# Altium schematic symbol library BKIT4U_LIB.SchLib: 368 symbols (part 1 of 3)
Pins are listed as number, name and electrical type; pins without a type are passive.

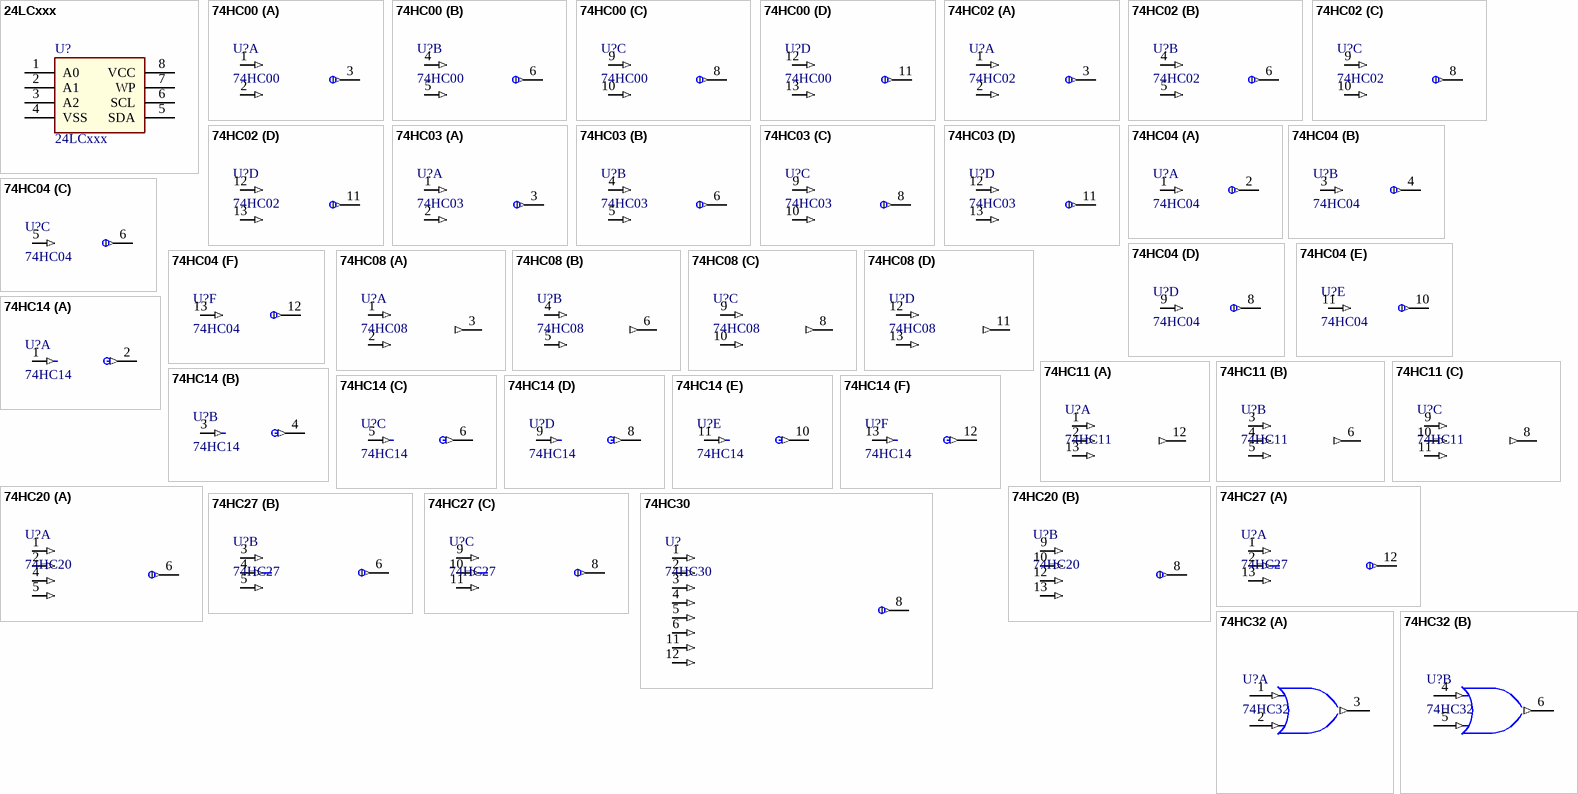
[diagram p0: symbols 24LCxxx to 74HC32]

## 24LCxxx
designator U?
2-Wire Serial EEPROM
footprint SOIC-8 (SOIC, 8-Leads, Body 5.0x4.0mm (max), Pitch 1.27mm, IPC Medium Density)
footprint DIP 8 (DIP IC (2.54mm), 8 pins)
pins: 1 A0, 2 A1, 3 A2, 4 VSS, 5 SDA, 6 SCL, 7 WP, 8 VCC

## 74HC00
designator U?
Quad 2-Input Nand Gate
footprint SOIC-14 (SOIC, 14-Leads, Body 8.6x3.9mm (max), Pitch 1.27mm, IPC Medium Density)
footprint DIP 14
part A pins: 1 1A (in), 2 1B (in), 3 1Y (out), 7 GND hidden to GND, 14 + (power) hidden to VCC
part B pins: 4 2A (in), 5 2B (in), 6 2Y (out)
part C pins: 8 3Y (out), 9 3A (in), 10 3B (in)
part D pins: 11 4Y (out), 12 4A (in), 13 4B (in)

## 74HC02
designator U?
Quad 2-Input Nor Gate
footprint SOIC-14 (SOIC, 14-Leads, Body 8.6x3.9mm (max), Pitch 1.27mm, IPC Medium Density)
footprint DIP 14
part A pins: 1 1A (in), 2 1B (in), 3 1Y (out), 7 GND hidden to GND, 14 + (power) hidden to VCC
part B pins: 4 2A (in), 5 2B (in), 6 2Y (out)
part C pins: 8 3Y (out), 9 3A (in), 10 3B (in)
part D pins: 11 4Y (out), 12 4A (in), 13 4B (in)

## 74HC03
designator U?
Quad 2-input NAND gate; open-drain output
footprint SOIC-14 (SOIC, 14-Leads, Body 8.6x3.9mm (max), Pitch 1.27mm, IPC Medium Density)
footprint DIP 14
part A pins: 1 1A (in), 2 1B (in), 3 1Y (out), 7 GND hidden to GND, 14 + (power) hidden to VCC
part B pins: 4 2A (in), 5 2B (in), 6 2Y (out)
part C pins: 8 3Y (out), 9 3A (in), 10 3B (in)
part D pins: 11 4Y (out), 12 4A (in), 13 4B (in)

## 74HC04
designator U?
Hex Inverters
footprint SOIC-14 (SOIC, 14-Leads, Body 8.6x3.9mm (max), Pitch 1.27mm, IPC Medium Density)
footprint DIP 14
part A pins: 1 1A (in), 2 1Y (out), 7 GND hidden to GND, 14 + (power) hidden to VCC
part B pins: 3 2A (in), 4 2Y (out)
part C pins: 5 3A (in), 6 3Y (out)
part D pins: 8 4Y (out), 9 4A (in)
part E pins: 10 5Y (out), 11 5A (in)
part F pins: 12 6Y (out), 13 6A (in)

## 74HC08
designator U?
Quad 2-Input Positive And Gate
footprint SOIC-14 (SOIC, 14-Leads, Body 8.6x3.9mm (max), Pitch 1.27mm, IPC Medium Density)
footprint DIP 14
part A pins: 1 1A (in), 2 1B (in), 3 1Y (out), 7 GND hidden to GND, 14 + (power) hidden to VCC
part B pins: 4 2A (in), 5 2B (in), 6 2Y (out)
part C pins: 8 3Y (out), 9 3A (in), 10 3B (in)
part D pins: 11 4Y (out), 12 4A (in), 13 4B (in)

## 74HC11
designator U?
Triple 3-Input And Gate
footprint SOIC-14 (SOIC, 14-Leads, Body 8.6x3.9mm (max), Pitch 1.27mm, IPC Medium Density)
footprint DIP 14
part A pins: 1 1A (in), 2 1B (in), 7 GND hidden to GND, 12 1Y (out), 13 1C (in), 14 + (power) hidden to VCC
part B pins: 3 2A (in), 4 2B (in), 5 2C (in), 6 2Y (out)
part C pins: 8 3Y (out), 9 3A (in), 10 3B (in), 11 3C (in)

## 74HC14
designator U?
Hex Schmitt Trigger
footprint SOIC-14 (SOIC, 14-Leads, Body 8.6x3.9mm (max), Pitch 1.27mm, IPC Medium Density)
footprint DIP 14
footprint TSSOP 14
part A pins: 1 1A (in), 2 1Y (out), 7 GND hidden to GND, 14 + (power) hidden to VCC
part B pins: 3 2A (in), 4 2Y (out)
part C pins: 5 3A (in), 6 3Y (out)
part D pins: 8 4Y (out), 9 4A (in)
part E pins: 10 5Y (out), 11 5A (in)
part F pins: 12 6Y (out), 13 6A (in)

## 74HC20
designator U?
Dual 4-Input Nand Gate
footprint SOIC-14 (SOIC, 14-Leads, Body 8.6x3.9mm (max), Pitch 1.27mm, IPC Medium Density)
footprint DIP 14
part A pins: 1 1A (in), 2 1B (in), 4 1C (in), 5 1D (in), 6 1Y (out), 7 GND hidden to GND, 14 + (power) hidden to VCC
part B pins: 8 2Y (out), 9 2A (in), 10 2B (in), 12 2C (in), 13 2D (in)

## 74HC27
designator U?
Triple 3-Input Nor Gate
footprint SOIC-14 (SOIC, 14-Leads, Body 8.6x3.9mm (max), Pitch 1.27mm, IPC Medium Density)
footprint DIP 14
part A pins: 1 1A (in), 2 1B (in), 7 GND hidden to GND, 12 1Y (out), 13 1C (in), 14 + (power) hidden to VCC
part B pins: 3 2A (in), 4 2B (in), 5 2C (in), 6 2Y (out)
part C pins: 8 3Y (out), 9 3A (in), 10 3B (in), 11 3C (in)

## 74HC30
designator U?
8-Input Positive Nand Gate
footprint SOIC-14 (SOIC, 14-Leads, Body 8.6x3.9mm (max), Pitch 1.27mm, IPC Medium Density)
footprint DIP 14
pins: 1 A (in), 2 B (in), 3 C (in), 4 D (in), 5 E (in), 6 F (in), 7 GND hidden to GND, 8 Y (out), 11 G (in), 12 H (in), 14 + (power) hidden to VCC

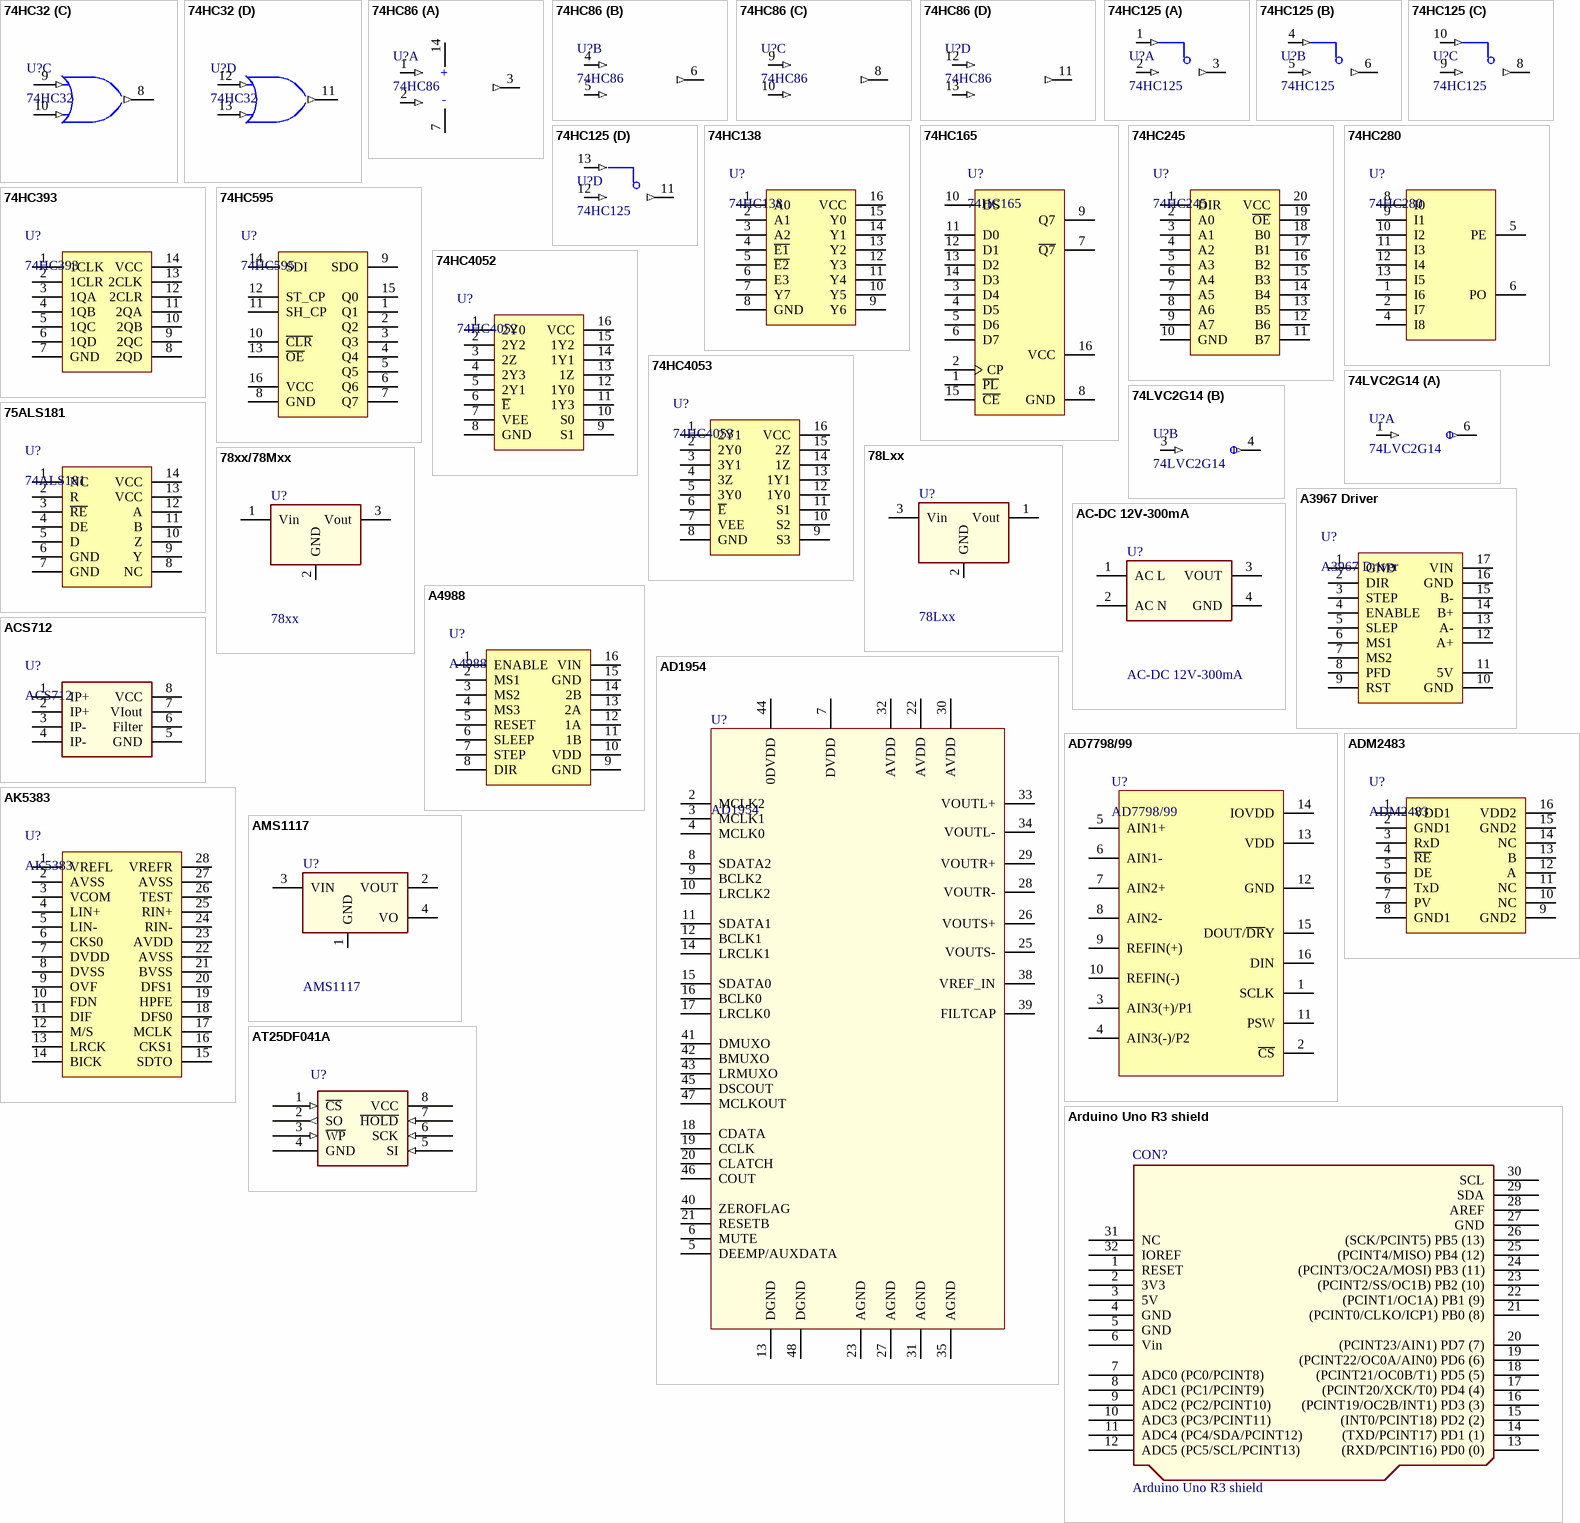
[diagram p1: symbols 74HC32 to AT25DF041A]

## 74HC32
designator U?
footprint SOIC-14 (SOIC, 14-Leads, Body 8.6x3.9mm (max), Pitch 1.27mm, IPC Medium Density)
footprint DIP 14
part A pins: 1 A (in), 2 B (in), 3 Y (out)
part B pins: 4 A (in), 5 B (in), 6 Y (out)
part C pins: 8 Y (out), 9 A (in), 10 B (in)
part D pins: 11 Y (out), 12 A (in), 13 B (in)

## 74HC86
designator U?
Quad 2-input EXCLUSIVE-OR gate
footprint SOIC-14 (SOIC, 14-Leads, Body 8.6x3.9mm (max), Pitch 1.27mm, IPC Medium Density)
footprint DIP 14
part A pins: 1 1A (in), 2 1B (in), 3 1Y (out), 7 GND, 14 VCC (power)
part B pins: 4 2A (in), 5 2B (in), 6 2Y (out)
part C pins: 8 3Y (out), 9 3A (in), 10 3B (in)
part D pins: 11 4Y (out), 12 4A (in), 13 4B (in)
part A text: +; -

## 74HC125
designator U?
Octal bus tranceiver, 3-state
footprint SOIC-14 (SOIC, 14-Leads, Body 8.6x3.9mm (max), Pitch 1.27mm, IPC Medium Density)
footprint DIP 14
part A pins: 1 1~{OE} (in), 2 1A (in), 3 1Y (out), 7 GND hidden, 14 + (power) hidden
part B pins: 4 2~{OE} (in), 5 2A (in), 6 2Y (out)
part C pins: 8 3Y (out), 9 3A (in), 10 3~{OE} (in)
part D pins: 11 4Y (out), 12 4A (in), 13 4~{OE} (in)

## 74HC138
designator U?
Hex inverter
footprint SOIC-16 (SOIC, 16-Leads, Body 10.0x4.0mm (max), Pitch 1.27mm, IPC Medium Density)
footprint DIP 16
pins: 1 A0, 2 A1, 3 A2, 4 ~{E1}, 5 ~{E2}, 6 E3, 7 Y7, 8 GND, 9 Y6, 10 Y5, 11 Y4, 12 Y3, 13 Y2, 14 Y1, 15 Y0, 16 VCC

## 74HC165
designator U?
8-bit serial-in, serial or parallel-out  shift register with output latches;  3-state
footprint SOIC-16 (SOIC, 16-Leads, Body 10.0x4.0mm (max), Pitch 1.27mm, IPC Medium Density)
footprint DIP 16
pins: 1 ~{PL}, 2 CP, 3 D4, 4 D5, 5 D6, 6 D7, 7 ~{Q7}, 8 GND, 9 Q7, 10 DS, 11 D0, 12 D1, 13 D2, 14 D3, 15 ~{CE}, 16 VCC

## 74HC245
designator U?
Octal bus tranceiver, 3-state
footprint SOIC-20 (SOIC, 20-Leads, Body 12.8x7.5mm (max), Pitch 1.27mm, IPC Medium Density)
footprint DIP 20
pins: 1 DIR, 2 A0, 3 A1, 4 A2, 5 A3, 6 A4, 7 A5, 8 A6, 9 A7, 10 GND, 11 B7, 12 B6, 13 B5, 14 B4, 15 B3, 16 B2, 17 B1, 18 B0, 19 ~{OE}, 20 VCC

## 74HC280
designator U?
9-bit odd/even parity generator/checker
footprint SOIC-14 (SOIC, 14-Leads, Body 8.6x3.9mm (max), Pitch 1.27mm, IPC Medium Density)
footprint DIP 14
pins: 1 I6, 2 I7, 4 I8, 5 PE, 6 PO, 7 GND hidden to GND, 8 I0, 9 I1, 10 I2, 11 I3, 12 I4, 13 I5, 14 VCC hidden to VCC

## 74HC393
designator U?
Dual 4-bit Binary Counters
footprint SOIC-14 (SOIC, 14-Leads, Body 8.6x3.9mm (max), Pitch 1.27mm, IPC Medium Density)
footprint DIP 14
pins: 1 1CLK, 2 1CLR, 3 1QA, 4 1QB, 5 1QC, 6 1QD, 7 GND, 8 2QD, 9 2QC, 10 2QB, 11 2QA, 12 2CLR, 13 2CLK, 14 VCC

## 74HC595
designator U?
8-bit serial-in, serial or parallel-out  shift register with output latches;  3-state
footprint SOIC-16 (SOIC, 16-Leads, Body 10.0x4.0mm (max), Pitch 1.27mm, IPC Medium Density)
footprint DIP 16
pins: 1 Q1, 2 Q2, 3 Q3, 4 Q4, 5 Q5, 6 Q6, 7 Q7, 8 GND, 9 SDO, 10 ~{CLR}, 11 SH_CP, 12 ST_CP, 13 ~{OE}, 14 SDI, 15 Q0, 16 VCC

## 74HC4052
designator U?
Dual 4-channel analog multiplexer/demultiplexer
footprint SOIC-16 (SOIC, 16-Leads, Body 10.0x4.0mm (max), Pitch 1.27mm, IPC Medium Density)
footprint DIP 16
pins: 1 2Y0, 2 2Y2, 3 2Z, 4 2Y3, 5 2Y1, 6 ~{E}, 7 VEE, 8 GND, 9 S1, 10 S0, 11 1Y3, 12 1Y0, 13 1Z, 14 1Y1, 15 1Y2, 16 VCC

## 74HC4053
designator U?
Triple 2-channel analog multiplexer/demultiplexer
footprint SOIC-16 (SOIC, 16-Leads, Body 10.0x4.0mm (max), Pitch 1.27mm, IPC Medium Density)
footprint DIP 16
pins: 1 2Y1, 2 2Y0, 3 3Y1, 4 3Z, 5 3Y0, 6 ~{E}, 7 VEE, 8 GND, 9 S3, 10 S2, 11 S1, 12 1Y0, 13 1Y1, 14 1Z, 15 2Z, 16 VCC

## 74LVC2G14
designator U?
Hex Schmitt Trigger
footprint SOT-23-6 (SOT23, 6-Leads, Body 3.0x3.0mm (max), Pitch 0.95mm, IPC Medium Density)
part A pins: 1 1A (in), 2 GND hidden to GND, 5 + (power) hidden to VCC, 6 1Y (out)
part B pins: 3 2A (in), 4 2Y (out)

## 75ALS181
designator U?, comment 74ALS181
DIFFERENTIAL DRIVER AND RECEIVER PAIR
footprint PDSO-14 (SOIC, 14-Leads, Body 9.9x3.9mm, Pitch 1.27mm, IPC Medium Density)
footprint DIP 14
pins: 1 NC, 2 R, 3 ~{RE}, 4 DE, 5 D, 6 GND, 7 GND, 8 NC, 9 Y, 10 Z, 11 B, 12 A, 13 VCC, 14 VCC

## 78Lxx
designator U?
LDO Fixed Voltage regulator
footprint SOT-89 (SOT89, 3-Leads, Body 4.5x2.4mm (max), Pitch 1.50mm, Lead Span 4.1mm, IPC Medium Density)
footprint TO-92
pins: 1 Vout, 2 GND, 3 Vin (power)

## 78xx/78Mxx
designator U?, comment 78xx
LDO Fixed Voltage regulator
footprint TO-220
footprint TO-252 (DPAK) (D-PAK, 3-Pads, Body 6.2x6.7mm (max), IPC Medium Density)
footprint TO-220/HeatSink
footprint TO-263 (D2PAK)
pins: 1 Vin (power), 2 GND, 3 Vout

## A3967 Driver
designator U?
StepMotor Driver
footprint A3967 Driver Pins (Driver Step Motor Pinout)
pins: 1 GND, 2 DIR, 3 STEP, 4 ENABLE, 5 SLEP, 6 MS1, 7 MS2, 8 PFD, 9 RST, 10 GND, 11 5V, 12 A+, 13 A-, 14 B+, 15 B-, 16 GND, 17 VIN

## A4988
designator U?
StepMotor Driver
footprint A4988 Driver Pins (Driver Step Motor Pinout)
pins: 1 ENABLE, 2 MS1, 3 MS2, 4 MS3, 5 RESET, 6 SLEEP, 7 STEP, 8 DIR, 9 GND, 10 VDD, 11 1B, 12 1A, 13 2A, 14 2B, 15 GND, 16 VIN

## AC-DC 12V-300mA
designator U?
footprint AC-DC Module (Driver Step Motor Pinout)
pins: 1 AC L (power), 2 AC N (power), 3 VOUT, 4 GND

## ACS712
designator U?
Fully Integrated, Hall Effect-Based Linear Current Sensor IC   with 2.1 kVRMS Isolation and a Low-Resistance Current Conductor
footprint SOIC-8 (SOIC, 8-Leads, Body 5.0x4.0mm (max), Pitch 1.27mm, IPC Medium Density)
pins: 1 IP+, 2 IP+, 3 IP-, 4 IP-, 5 GND, 6 Filter, 7 VIout, 8 VCC

## AD1954
designator U?
SigmaDSP 3-Channel, 26-Bit Signal Processing DAC
footprint QFP 50P 48 (TSQFP, 48-Leads, Body 9.2x9.2mm (max), Pitch 0.50mm, IPC Medium Density)
pins: 2 MCLK2, 3 MCLK1, 4 MCLK0, 5 DEEMP/AUXDATA, 6 MUTE, 7 DVDD, 8 SDATA2, 9 BCLK2, 10 LRCLK2, 11 SDATA1, 12 BCLK1, 13 DGND, 14 LRCLK1, 15 SDATA0, 16 BCLK0, 17 LRCLK0, 18 CDATA, 19 CCLK, 20 CLATCH, 21 RESETB, 22 AVDD, 23 AGND, 25 VOUTS-, 26 VOUTS+, 27 AGND, 28 VOUTR-, 29 VOUTR+, 30 AVDD, 31 AGND, 32 AVDD, 33 VOUTL+, 34 VOUTL-, 35 AGND, 38 VREF_IN, 39 FILTCAP, 40 ZEROFLAG, 41 DMUXO, 42 BMUXO, 43 LRMUXO, 44 0DVDD, 45 DSCOUT, 46 COUT, 47 MCLKOUT, 48 DGND

## AD7798/99
designator U?
footprint TSSOP 16
pins: 1 SCLK, 2 ~{CS}, 3 AIN3(+)/P1, 4 AIN3(-)/P2, 5 AIN1+, 6 AIN1-, 7 AIN2+, 8 AIN2-, 9 REFIN(+), 10 REFIN(-), 11 PSW, 12 GND, 13 VDD, 14 IOVDD, 15 DOUT/~{DR}Y, 16 DIN

## ADM2483
designator U?
Hex inverter
footprint SOIC-16-WIDE (SOIC, 20-Leads, Body 12.8x7.5mm (max), Pitch 1.27mm, IPC Medium Density)
pins: 1 VDD1, 2 GND1, 3 RxD, 4 ~{RE}, 5 DE, 6 TxD, 7 PV, 8 GND1, 9 GND2, 10 NC, 11 NC, 12 A, 13 B, 14 NC, 15 GND2, 16 VDD2

## AK5383
designator U?
A 24bit, 192kHz sampling 2ch A/D converter for high-end audio system
footprint SOIC-28 (SOIC, 28-Leads, Body 17.9x7.5mm (max), Pitch 1.27mm, IPC Medium Density)
pins: 1 VREFL, 2 AVSS, 3 VCOM, 4 LIN+, 5 LIN-, 6 CKS0, 7 DVDD, 8 DVSS, 9 OVF, 10 FDN, 11 DIF, 12 M/S, 13 LRCK, 14 BICK, 15 SDTO, 16 CKS1, 17 MCLK, 18 DFS0, 19 HPFE, 20 DFS1, 21 BVSS, 22 AVSS, 23 AVDD, 24 RIN-, 25 RIN+, 26 TEST, 27 AVSS, 28 VREFR

## AMS1117
designator U?
1A LDO Voltage Regulator, ADJ or fixed 1.5/1.8/2.5/2.85/3.3/5V
footprint SOT-223 (SOT223, 4-Leads, Body 6.7x7.3mm (max), Pitch 2.30mm, IPC Medium Density)
pins: 1 GND, 2 VOUT, 3 VIN (power), 4 VO

## Arduino Uno R3 shield
designator CON?
Arduino Uno R3 shield pins connection
footprint Arduino Uno R3 Shield 2xPins
pins: 1 RESET, 2 3V3, 3 5V, 4 GND (power), 5 GND (power), 6 Vin, 7 ADC0 (PC0/PCINT8), 8 ADC1 (PC1/PCINT9), 9 ADC2 (PC2/PCINT10), 10 ADC3 (PC3/PCINT11), 11 ADC4 (PC4/SDA/PCINT12), 12 ADC5 (PC5/SCL/PCINT13), 13 (RXD/PCINT16) PD0 (0), 14 (TXD/PCINT17) PD1 (1), 15 (INT0/PCINT18) PD2 (2), 16 (PCINT19/OC2B/INT1) PD3 (3), 17 (PCINT20/XCK/T0) PD4 (4), 18 (PCINT21/OC0B/T1) PD5 (5), 19 (PCINT22/OC0A/AIN0) PD6 (6), 20 (PCINT23/AIN1) PD7 (7), 21 (PCINT0/CLKO/ICP1) PB0 (8), 22 (PCINT1/OC1A) PB1 (9), 23 (PCINT2/SS/OC1B) PB2 (10), 24 (PCINT3/OC2A/MOSI) PB3 (11), 25 (PCINT4/MISO) PB4 (12), 26 (SCK/PCINT5) PB5 (13), 27 GND (power), 28 AREF, 29 SDA, 30 SCL, 31 NC, 32 IOREF

## AT25DF041A
designator U?
4Mb SPI Serial Flash Memory
footprint SOIC-8 (SOIC, 8-Leads, Body 5.0x4.0mm (max), Pitch 1.27mm, IPC Medium Density)
pins: 1 ~{CS} (in), 2 SO (out), 3 ~{WP} (in), 4 GND (power), 5 SI (in), 6 SCK (in), 7 ~{HOLD} (in), 8 VCC (power)

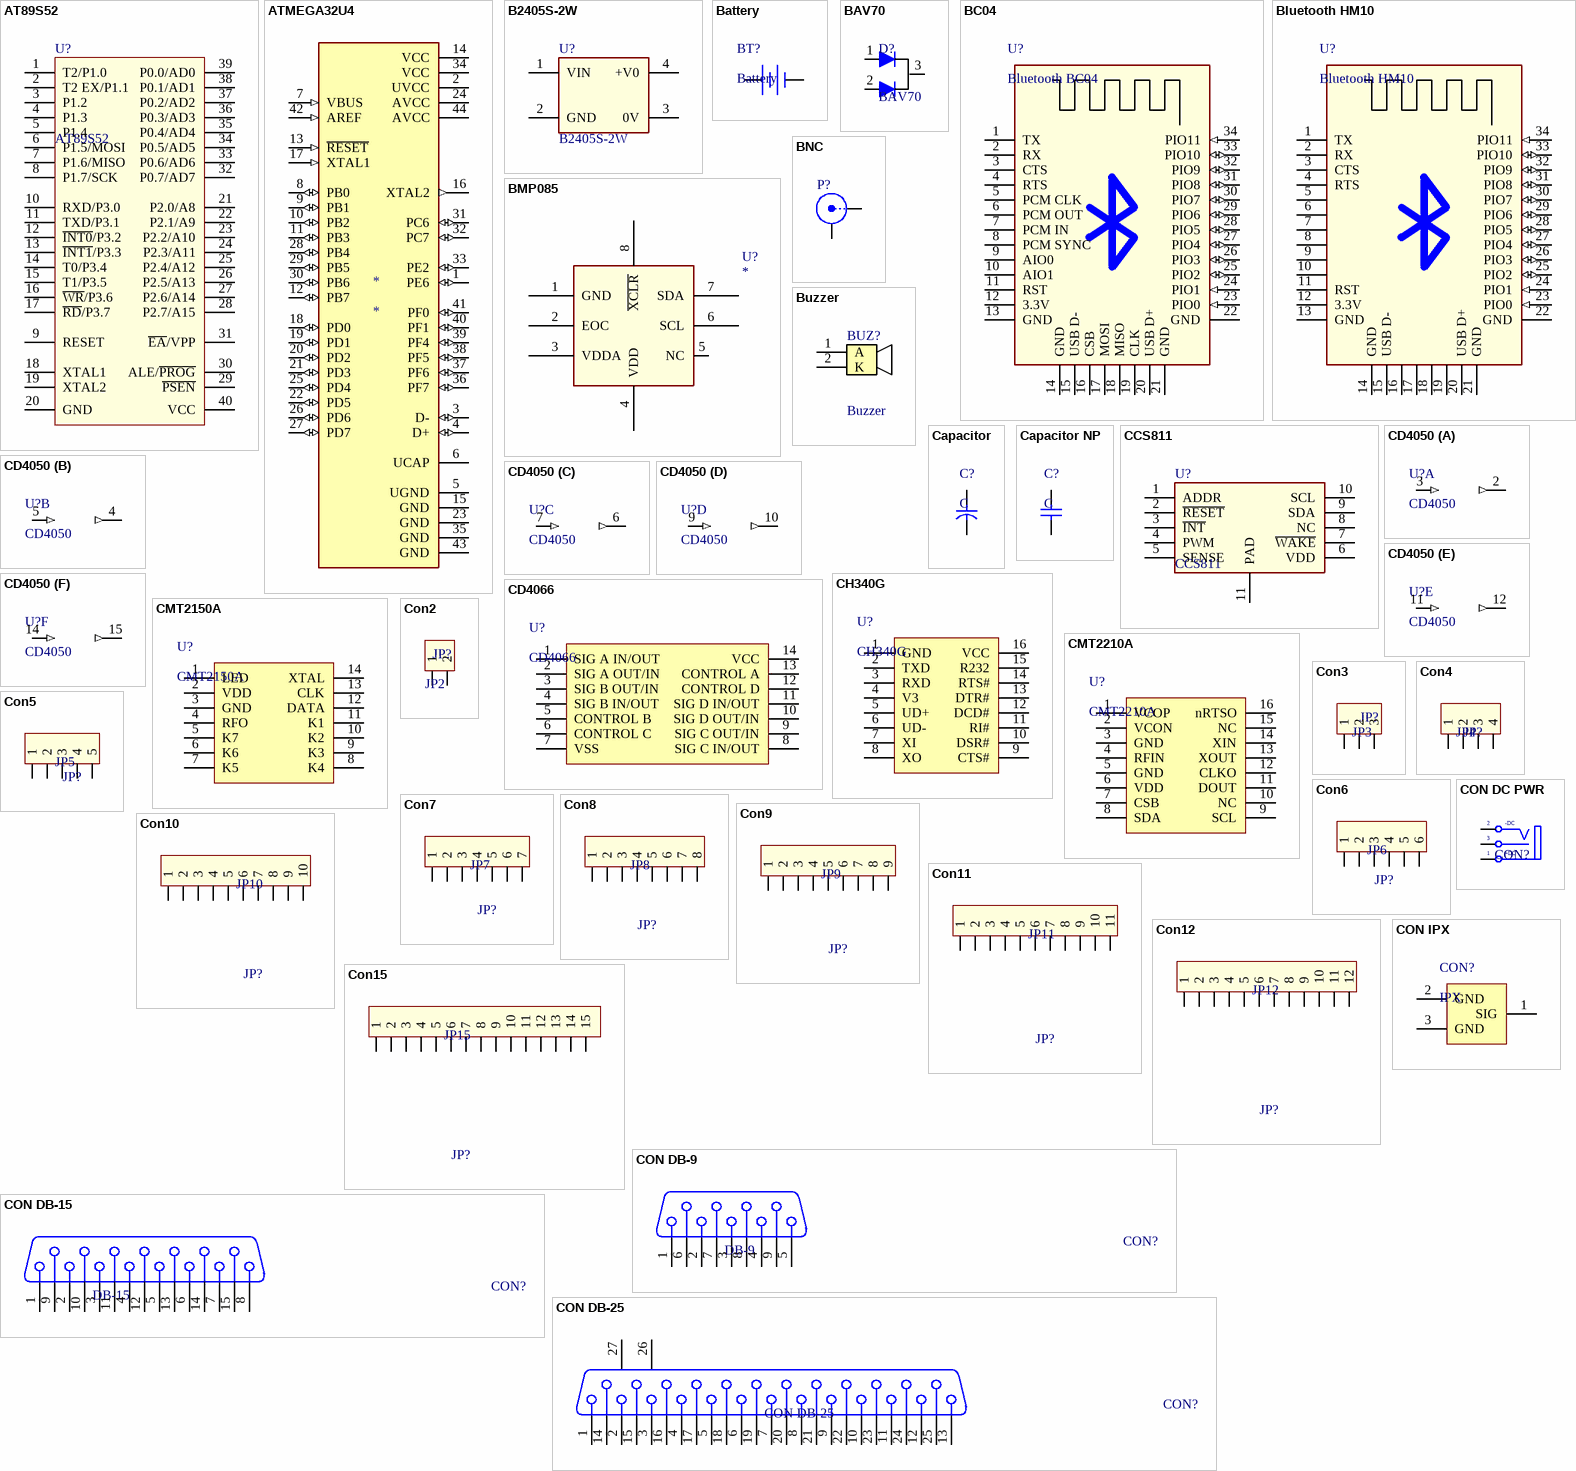
[diagram p2: symbols AT89S52 to CON IPX]

## AT89S52
designator U?
8051 Microcontroller
footprint DIP 40
pins: 1 T2/P1.0, 2 T2 EX/P1.1, 3 P1.2, 4 P1.3, 5 P1.4, 6 P1.5/MOSI, 7 P1.6/MISO, 8 P1.7/SCK, 9 RESET, 10 RXD/P3.0, 11 TXD/P3.1, 12 ~{INT0}/P3.2, 13 ~{INT1}/P3.3, 14 T0/P3.4, 15 T1/P3.5, 16 ~{WR}/P3.6, 17 ~{RD}/P3.7, 18 XTAL1, 19 XTAL2, 20 GND, 21 P2.0/A8, 22 P2.1/A9, 23 P2.2/A10, 24 P2.3/A11, 25 P2.4/A12, 26 P2.5/A13, 27 P2.6/A14, 28 P2.7/A15, 29 ~{PSEN}, 30 ALE/~{PROG}, 31 ~{EA}/VPP, 32 P0.7/AD7, 33 P0.6/AD6, 34 P0.5/AD5, 35 P0.4/AD4, 36 P0.3/AD3, 37 P0.2/AD2, 38 P0.1/AD1, 39 P0.0/AD0, 40 VCC

## ATMEGA32U4
designator *
footprint QFP80P1200X1200X120-44N
pins: 1 PE6 (io), 2 UVCC (power), 3 D- (io), 4 D+ (io), 5 UGND (power), 6 UCAP, 7 VBUS (in), 8 PB0 (io), 9 PB1 (io), 10 PB2 (io), 11 PB3 (io), 12 PB7 (io), 13 ~{RESET} (in), 14 VCC (power), 15 GND (power), 16 XTAL2 (out), 17 XTAL1 (in), 18 PD0 (io), 19 PD1 (io), 20 PD2 (io), 21 PD3 (io), 22 PD5 (io), 23 GND (power), 24 AVCC (power), 25 PD4 (io), 26 PD6 (io), 27 PD7 (io), 28 PB4 (io), 29 PB5 (io), 30 PB6 (io), 31 PC6 (io), 32 PC7 (io), 33 PE2 (io), 34 VCC (power), 35 GND (power), 36 PF7 (io), 37 PF6 (io), 38 PF5 (io), 39 PF4 (io), 40 PF1 (io), 41 PF0 (io), 42 AREF (in), 43 GND (power), 44 AVCC (power)

## B2405S-2W
designator U?
Isolated Power
footprint B2405S-2W
pins: 1 VIN, 2 GND, 3 0V, 4 +V0

## Battery
designator BT?
footprint CON CR2032
footprint CON CR1220
footprint CON CR2032 V
footprint CON CR2032 VL
pins: 1 VCC, 2 GND

## BAV70
designator D?
High-speed switching diodes; Published: 8-Jun-2000; LatestRevisionDate: 17-Jul-2002; LatestRevisionNote: Re-released for DXP Platform.; PackageVersion: Sep-1996; PackageReference: SMC; Publisher: Altium Limited; Code_JEDEC: DO-214-AB
footprint SOT-23 (SOT23, 3-Leads, Body 3.0x2.5mm (max), Pitch 0.95mm, IPC Medium Density)
pins: 1, 2, 3

## BC04
designator U?, comment Bluetooth BC04
Bluetooth module uses CSR BlueCore4-External chipsets.
footprint BC04 (Bluetooth module uses CSR BlueCore4-External chipsets.)
pins: 1 TX, 2 RX, 3 CTS, 4 RTS, 5 PCM CLK, 6 PCM OUT, 7 PCM IN, 8 PCM SYNC, 9 AIO0, 10 AIO1, 11 RST, 12 3.3V, 13 GND, 14 GND, 15 USB D-, 16 CSB, 17 MOSI, 18 MISO, 19 CLK, 20 USB D+, 21 GND, 22 GND, 23 PIO0 (in), 24 PIO1 (in), 25 PIO2 (io), 26 PIO3 (io), 27 PIO4 (io), 28 PIO5 (io), 29 PIO6 (io), 30 PIO7 (io), 31 PIO8 (io), 32 PIO9 (io), 33 PIO10 (io), 34 PIO11 (in)

## Bluetooth HM10
designator U?
Bluetooth module uses CSR BlueCore4-External chipsets.
footprint BC04 (Bluetooth module uses CSR BlueCore4-External chipsets.)
pins: 1 TX, 2 RX, 3 CTS, 4 RTS, 5, 6, 7, 8, 9, 10, 11 RST, 12 3.3V, 13 GND, 14 GND, 15 USB D-, 16, 17, 18, 19, 20 USB D+, 21 GND, 22 GND, 23 PIO0 (in), 24 PIO1 (in), 25 PIO2 (io), 26 PIO3 (io), 27 PIO4 (io), 28 PIO5 (io), 29 PIO6 (io), 30 PIO7 (io), 31 PIO8 (io), 32 PIO9 (io), 33 PIO10 (io), 34 PIO11 (in)

## BMP085
designator U?
footprint LCC 8-LEAD
pins: 1 GND (power), 2 EOC, 3 VDDA (power), 4 VDD (power), 5 NC, 6 SCL, 7 SDA, 8 ~{XCLR}

## BNC
designator P?
BNC Elbow Connector; LatestRevisionDate: 17-Jul-2002; LatestRevisionNote: Re-released for DXP Platform.; Publisher: Altium Limited
footprint BNC_RA CON (Connector; BNC Elbow)
pins: 1 X, 2 Y

## Buzzer
designator BUZ?
footprint BUZZER
footprint Buzzer SMD
pins: 1 A, 2 K

## Capacitor
designator C?, comment C
Capacitor pol
footprint C SMD TAN 1206 (A) (Molded Capacitor, 2-Leads, Body 3.2x1.6mm, IPC Medium Density)
footprint C SMD TAN 2312 (C) (Molded Capacitor, 2-Leads, Body 6.0x3.2mm, IPC Medium Density)
footprint C SMD TAN 2917 (E) (Molded Capacitor, 2-Leads, Body 7.3x4.3mm, IPC Medium Density)
footprint CYL/D.250/LS.100/.031
footprint CYL/D.300/LS.150/.031
footprint CYL/D.350/LS.200/.034
footprint CYL/D.400/LS.200/.031
footprint C SMD ALU (D) (SMD Aluminum Electrolytic Capacitor, size D (6.3 x 5.4 mm))
footprint C SMD ALU (D8) (SMD Aluminum Electrolytic Capacitor, size D8 (6.3 x 7.7 mm))
footprint C SMD ALU (B) (SMD Aluminum Electrolytic Capacitor, size D (4.0 x 5.4 mm))
footprint C SMD ALU (F) (SMD Aluminum Electrolytic Capacitor, size F (8.0 x 10.2 mm))
footprint C Super Case A
footprint C Super Case B
pins: 1, 2

## Capacitor NP
designator C?, comment C
Capacitor non-pol
footprint C 0603 (1608) (Chip Capacitor, 2-Leads, Body 1.6x0.8mm, IPC Medium Density)
footprint C 0805 (2012) (Chip Capacitor, 2-Leads, Body 2.0x1.3mm, IPC Medium Density)
footprint C 104 (Capacitor)
footprint C Ceramic
footprint C 1210 (3225) (Chip Resistor, 2-Leads, Body 3.2x2.5mm, IPC Medium Density)
footprint C 1206 (3216) (Chip Resistor, 2-Leads, Body 3.1x1.6mm, IPC Medium Density)
pins: 1, 2

## CCS811
designator U?
Ultra-Low Power Digital Gas Sensor for / Monitoring Indoor Air Quality
footprint CCS811
pins: 1 ADDR, 2 ~{RESET}, 3 ~{INT}, 4 PWM, 5 SENSE, 6 VDD, 7 ~{WAKE}, 8 NC, 9 SDA, 10 SCL, 11 PAD

## CD4050
designator U?
Hex Schmitt Trigger
footprint SOIC-16 (SOIC, 16-Leads, Body 10.0x4.0mm (max), Pitch 1.27mm, IPC Medium Density)
part A pins: 2 G (out), 3 A (in), 8 GND hidden to GND, 16 + (power) hidden to VCC
part B pins: 4 H (out), 5 B (in)
part C pins: 6 I (out), 7 C (in)
part D pins: 9 D (in), 10 J (out)
part E pins: 11 E (in), 12 K (out)
part F pins: 14 F (in), 15 L (out)

## CD4066
designator U?
CMOS Quad Bilateral Switch
footprint SOIC-14 (SOIC, 14-Leads, Body 8.6x3.9mm (max), Pitch 1.27mm, IPC Medium Density)
footprint DIP 14
pins: 1 SIG A IN/OUT, 2 SIG A OUT/IN, 3 SIG B OUT/IN, 4 SIG B IN/OUT, 5 CONTROL B, 6 CONTROL C, 7 VSS, 8 SIG C IN/OUT, 9 SIG C OUT/IN, 10 SIG D OUT/IN, 11 SIG D IN/OUT, 12 CONTROL D, 13 CONTROL A, 14 VCC

## CH340G
designator U?
USB to UART Interface
footprint SOIC-16 (SOIC, 16-Leads, Body 10.0x4.0mm (max), Pitch 1.27mm, IPC Medium Density)
pins: 1 GND, 2 TXD, 3 RXD, 4 V3, 5 UD+, 6 UD-, 7 XI, 8 XO, 9 CTS#, 10 DSR#, 11 RI#, 12 DCD#, 13 DTR#, 14 RTS#, 15 R232, 16 VCC

## CMT2150A
designator U?
240 – 480 MHz OOK Stand-Alone Transmitter with Encoder
footprint SOIC-14 (SOIC, 14-Leads, Body 8.6x3.9mm (max), Pitch 1.27mm, IPC Medium Density)
pins: 1 LED, 2 VDD, 3 GND, 4 RFO, 5 K7, 6 K6, 7 K5, 8 K4, 9 K3, 10 K2, 11 K1, 12 DATA, 13 CLK, 14 XTAL

## CMT2210A
designator U?
Low-Cost 300 – 960 MHz OOK Stand-Alone RF Receiver
footprint SOIC-16 (SOIC, 16-Leads, Body 10.0x4.0mm (max), Pitch 1.27mm, IPC Medium Density)
pins: 1 VCOP, 2 VCON, 3 GND, 4 RFIN, 5 GND, 6 VDD, 7 CSB, 8 SDA, 9 SCL, 10 NC, 11 DOUT, 12 CLKO, 13 XOUT, 14 XIN, 15 NC, 16 nRTSO

## Con2
designator JP?, comment JP2
Connector 2; Value: Connector 2
footprint CON Header 2
footprint CON Header 2 - RA
footprint CON Header 2 - RA - SMD
pins: 1, 2

## Con3
designator JP?, comment JP3
Connector 3; Value: Connector 3
footprint CON Header 3
footprint CON Header 3 - RA
footprint CON Header 3 - RA - SMD
pins: 1, 2, 3

## Con4
designator JP?, comment JP4
Connector 4; Value: Connector 4
footprint CON Header 4
footprint CON Header 4 - RA
footprint CON Header 4 - RA - SMD
pins: 1, 2, 3, 4

## Con5
designator JP?, comment JP5
Connector 5; Value: Connector 5
footprint CON Header 5
footprint CON Header 5 - RA
footprint CON Header 5 - RA - SMD
pins: 1, 2, 3, 4, 5

## Con6
designator JP?, comment JP6
Connector 6; Value: Connector 6
footprint CON Header 6
footprint CON Header 6 - RA
footprint CON Header 6 - RA - SMD
pins: 1, 2, 3, 4, 5, 6

## Con7
designator JP?, comment JP7
Connector 7; Value: Connector 7
footprint CON Header 7
footprint CON Header 7 - RA
footprint CON Header 7 - RA - SMD
pins: 1, 2, 3, 4, 5, 6, 7

## Con8
designator JP?, comment JP8
Connector 8; Value: Connector 8
footprint CON Header 8
footprint CON Header 8 - RA
footprint CON Header 8 - RA - SMD
pins: 1, 2, 3, 4, 5, 6, 7, 8

## Con9
designator JP?, comment JP9
Connector 9; Value: Connector 9
footprint CON Header 9
footprint CON Header 9 - RA
footprint CON Header 9 - RA - SMD
pins: 1, 2, 3, 4, 5, 6, 7, 8, 9

## Con10
designator JP?, comment JP10
Connector 10; Value: Connector 10
footprint CON Header 10
footprint CON Header 10 - RA
footprint CON Header 10 - RA - SMD
pins: 1, 2, 3, 4, 5, 6, 7, 8, 9, 10

## Con11
designator JP?, comment JP11
Connector 11; Value: Connector 11
footprint CON Header 11
footprint CON Header 11 - RA
pins: 1, 2, 3, 4, 5, 6, 7, 8, 9, 10, 11

## Con12
designator JP?, comment JP12
Connector 12; Value: Connector 12
footprint CON Header 12
footprint CON Header 12 - RA
pins: 1, 2, 3, 4, 5, 6, 7, 8, 9, 10, 11, 12

## Con15
designator JP?, comment JP15
Connector 12; Value: Connector 12
footprint CON Header 15
footprint CON Header 15 - RA
pins: 1, 2, 3, 4, 5, 6, 7, 8, 9, 10, 11, 12, 13, 14, 15

## CON DB-9
designator CON?, comment DB-9
Connector D-Sub 9
footprint CON DB9 FEMALE (CAN DB9 Connector)
footprint CON DB9 FEMALE ROTATY
footprint CON DB9 MALE (CAN DB9 Connector)
pins: 1, 2, 3, 4, 5, 6, 7, 8, 9

## CON DB-15
designator CON?, comment DB-15
Connector D-Sub 9
footprint CON DB15 ROTATY
pins: 1, 2, 3, 4, 5, 6, 7, 8, 9, 10, 11, 12, 13, 14, 15

## CON DB-25
designator CON?
Connector D-Sub 25; PackageDocument: U; Positions: 25; Gender: Receptacle; Value: LPT 25; Published: 15-Jun-2001; LatestRevisionDate: 17-Jul-2002; LatestRevisionNote: Re-released for DXP Platform.; DatasheetDocument: 19-Mar-1999; PackageReference: 787202; Publisher: Altium Limited; Orientation: Right Angle
footprint DSB 25-F (LPT FMALE - D Subminiature; 25 Position; Right Angle; Pitch 1.385 mm)
footprint DSB 25F-SM (25 pin, connector LPT)
footprint DSB 25-M (LPT MALE D Subminiature; 25 Position; Right Angle; Pitch 1.385 mm)
pins: 1, 2, 3, 4, 5, 6, 7, 8, 9, 10, 11, 12, 13, 14, 15, 16, 17, 18, 19, 20, 21, 22, 23, 24, 25, 26 MH1, 27 MH2

## CON DC PWR
designator CON?
DC input connector
footprint CON PWR 3.5mm
footprint CON PWR 5MM
footprint CON DC-044
pins: 1 T "Tip", 2 TN "Tip Normal (Break Contact)", 3 S (power) "Sleeve (Ground)"
text: -DC; +DC

## CON IPX
designator CON?, comment IPX
footprint CON IPX SMD
pins: 1 SIG, 2 GND, 3 GND

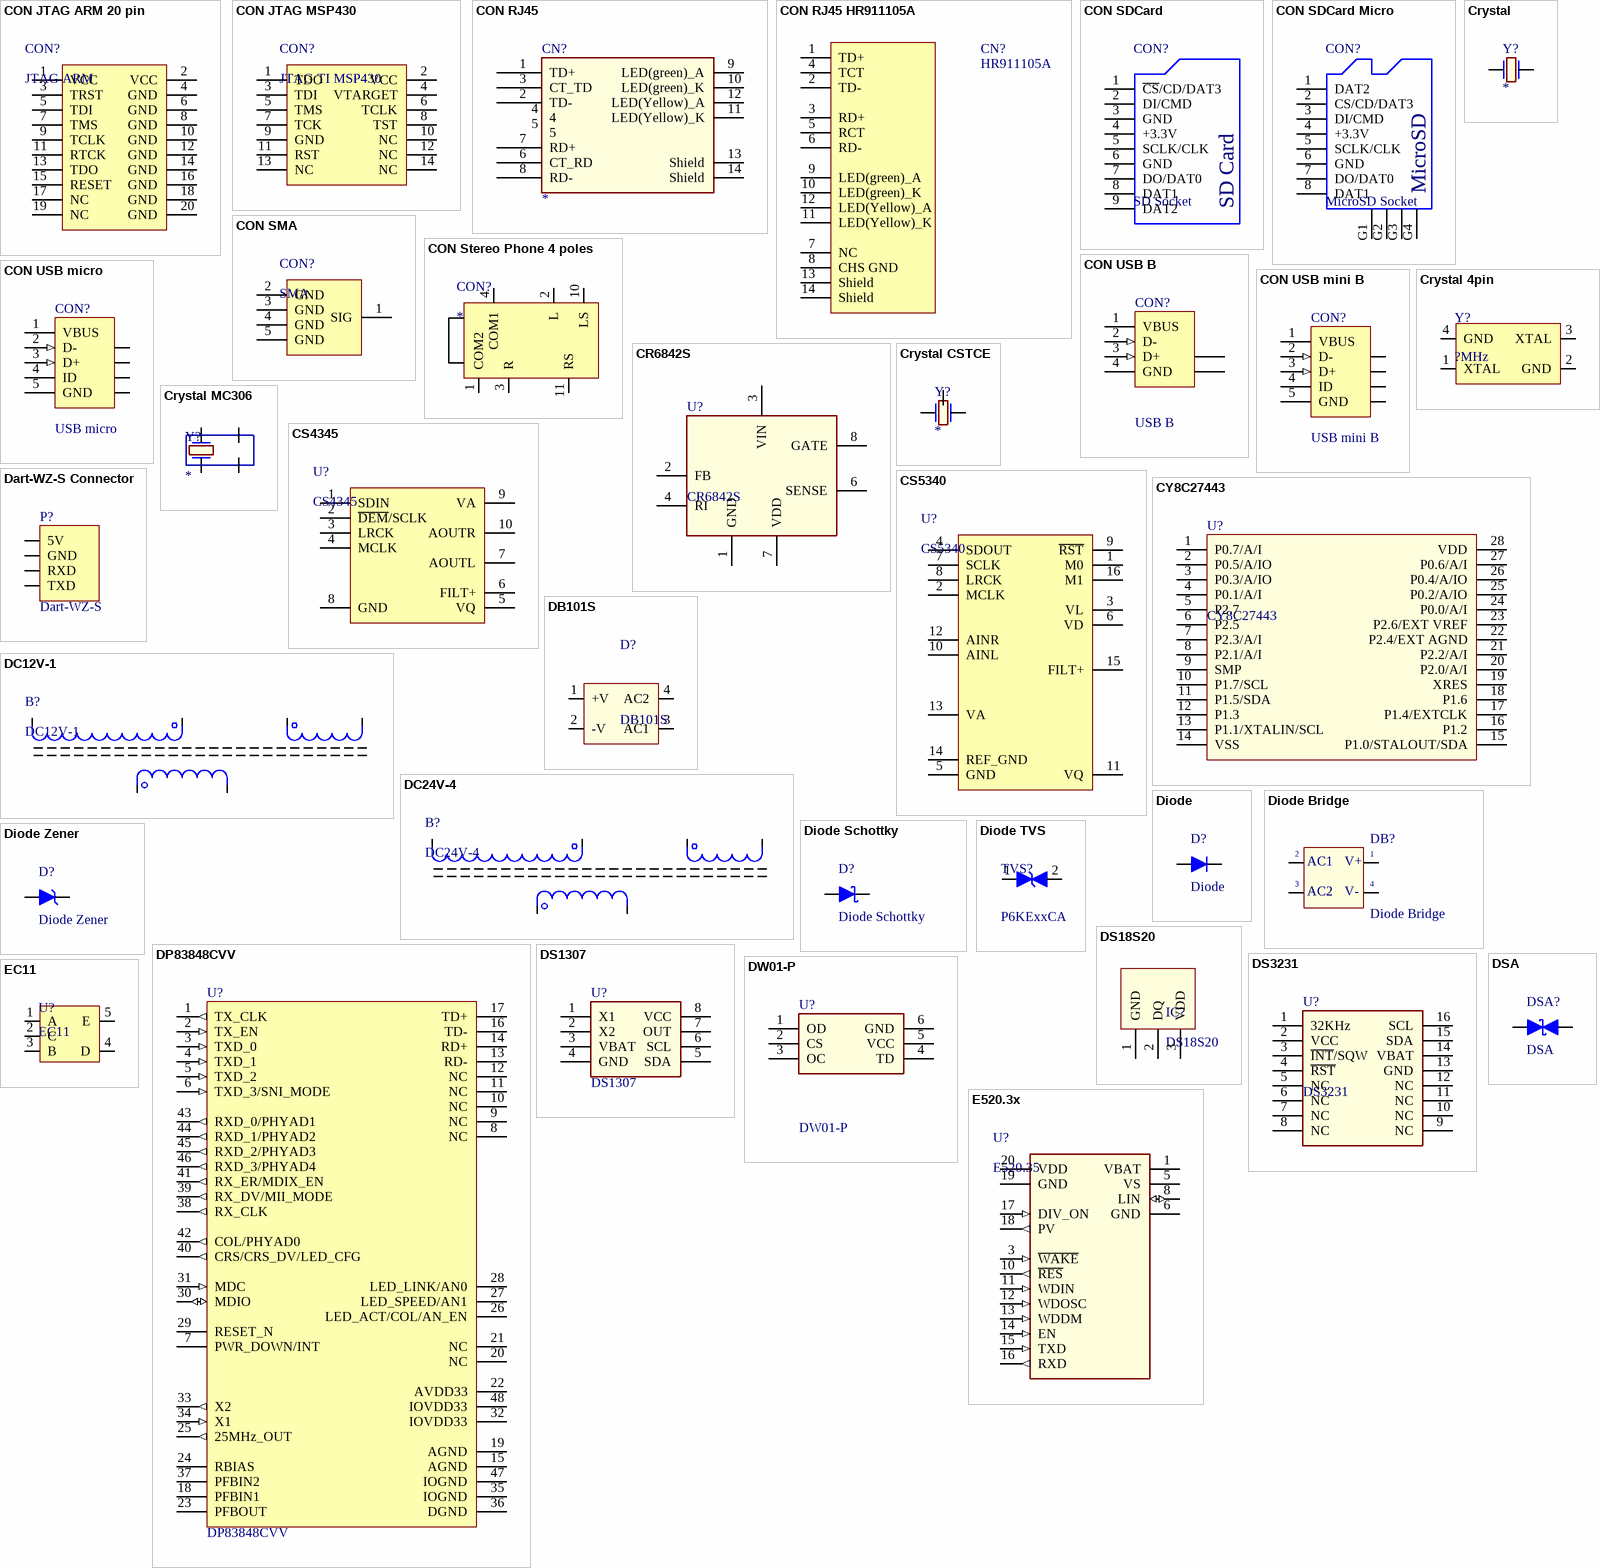
[diagram p3: symbols CON JTAG ARM 20 pin to EC11]

## CON JTAG ARM 20 pin
designator CON?, comment JTAG ARM
JTAG ARM 20-pin interface
footprint IDC MBH 20 (20 pins Male Box Header, IDC Socket)
pins: 1 VCC, 2 VCC, 3 TRST, 4 GND, 5 TDI, 6 GND, 7 TMS, 8 GND, 9 TCLK, 10 GND, 11 RTCK, 12 GND, 13 TDO, 14 GND, 15 RESET, 16 GND, 17 NC, 18 GND, 19 NC, 20 GND

## CON JTAG MSP430
designator CON?, comment JTAG TI MSP430
JTAG TI 14 pins for DSPs, MSPs
footprint IDC MBH 14 (14 pins Male Box Header, IDC Socket)
pins: 1 TDO, 2 VCC, 3 TDI, 4 VTARGET, 5 TMS, 6 TCLK, 7 TCK, 8 TST, 9 GND, 10 NC, 11 RST, 12 NC, 13 NC, 14 NC

## CON RJ45
designator CN?
footprint CON RJ45
pins: 1 TD+, 2 TD-, 3 CT_TD, 4, 5, 6 CT_RD, 7 RD+, 8 RD-, 9 LED(green)_A, 10 LED(green)_K, 11 LED(Yellow)_K, 12 LED(Yellow)_A, 13 Shield, 14 Shield

## CON RJ45 HR911105A
designator CN?, comment HR911105A
Connector RJ45 HR911105A
footprint CON RJ45 HR911105A
pins: 1 TD+, 2 TD-, 3 RD+, 4 TCT, 5 RCT, 6 RD-, 7 NC, 8 CHS GND, 9 LED(green)_A, 10 LED(green)_K, 11 LED(Yellow)_K, 12 LED(Yellow)_A, 13 Shield, 14 Shield

## CON SDCard
designator CON?, comment SD Socket
footprint CON SD
pins: 1 ~{CS}/CD/DAT3, 2 DI/CMD, 3 GND (power), 4 +3.3V (power), 5 SCLK/CLK, 6 GND (power), 7 DO/DAT0, 8 DAT1, 9 DAT2
text: SD Card

## CON SDCard Micro
designator CON?, comment MicroSD Socket
footprint CON SD Micro
pins: 1 DAT2, 2 CS/CD/DAT3, 3 DI/CMD (power), 4 +3.3V (power), 5 SCLK/CLK, 6 GND (power), 7 DO/DAT0, 8 DAT1, G1, G2, G3, G4
text: MicroSD

## CON SMA
designator CON?, comment SMA
SMA connectors
footprint CON SMA (Connector; RF Coaxial, MCX, Thru-Hole; 5 Position; Right Angle)
footprint CON SMA R/A (Connector; RF Coaxial, MCX, Thru-Hole; 5 Position; Right Angle)
pins: 1 SIG, 2 GND, 3 GND, 4 GND, 5 GND

## CON Stereo Phone 4 poles
designator CON?
Connector Stereo Phone 4 poles
footprint CON Stereo phone 4-pole
pins: 1 COM2, 2 L, 3 R, 4 COM1, 10 LS, 11 RS

## CON USB B
designator CON?, comment USB B
USB type B, 4 pins
footprint CON USB B
footprint CON USB A
pins: 1 VBUS (power) "Power", 2 D- (in) "-DATA", 3 D+ (in) "+DATA", 4 GND (power) "Ground", 5 SHLD "Shield", 6 SHLD "Shield"

## CON USB micro
designator CON?, comment USB micro
USB micro, 5 pins
footprint CON USB B Micro
pins: 1 VBUS (power) "Power", 2 D- (in) "-DATA", 3 D+ (in) "+DATA", 4 ID, 5 GND (power) "Ground", 6 SHLD "Shield", 7 SHLD "Shield", 8 SHLD "Shield", 9 SHLD "Shield"

## CON USB mini B
designator CON?, comment USB mini B
USB mini type B, 5 pins
footprint CON USB B Mini (Connector; USB2.0, Type B, SM; 5 Position; Right Angle)
pins: 1 VBUS (power) "Power", 2 D- (in) "-DATA", 3 D+ (in) "+DATA", 4 ID, 5 GND (power) "Ground", 6 SHLD "Shield", 7 SHLD "Shield", 8 SHLD "Shield", 9 SHLD "Shield"

## CR6842S
designator U?
footprint SOIC-8 (SOIC, 8-Leads, Body 5.0x4.0mm (max), Pitch 1.27mm, IPC Medium Density)
pins: 1 GND, 2 FB, 3 VIN, 4 RI, 6 SENSE, 7 VDD, 8 GATE

## Crystal
designator Y?
footprint Crystal DIP-2 (Available for crystal 32.768kHz)
footprint Crystal HC49S DIP
footprint Crystal HC49US SMD
footprint Crystal SMD FC135
pins: 1, 2

## Crystal 4pin
designator Y?, comment ?MHz
footprint Crystal SMD 4PIN 2520
pins: 1 XTAL, 2 GND, 3 XTAL, 4 GND

## Crystal CSTCE
designator Y?
footprint Crystal SMD CSTCE
pins: 1, 2, 3

## Crystal MC306
designator Y?
footprint Crystal SMD MC306
pins: 1, 2, 3, 4

## CS4345
designator U?
10-Pin, 24-Bit, 192 kHz Stereo D/A Converter
footprint TSSOP 10
pins: 1 SDIN, 2 ~{DEM}/SCLK, 3 LRCK, 4 MCLK, 5 VQ, 6 FILT+, 7 AOUTL, 8 GND, 9 VA, 10 AOUTR

## CS5340
designator U?
101 dB, 192 kHz, Multi-Bit Audio A/D Converter
footprint TSSOP 16
pins: 1 M0, 2 MCLK, 3 VL, 4 SDOUT, 5 GND, 6 VD, 7 SCLK, 8 LRCK, 9 ~{RST}, 10 AINL, 11 VQ, 12 AINR, 13 VA, 14 REF_GND, 15 FILT+, 16 M1

## CY8C27443
designator U?
PSoC® Programmable System-on-Chip™
footprint SOIC-28 (SOIC, 28-Leads, Body 17.9x7.5mm (max), Pitch 1.27mm, IPC Medium Density)
pins: 1 P0.7/A/I, 2 P0.5/A/IO, 3 P0.3/A/IO, 4 P0.1/A/I, 5 P2.7, 6 P2.5, 7 P2.3/A/I, 8 P2.1/A/I, 9 SMP, 10 P1.7/SCL, 11 P1.5/SDA, 12 P1.3, 13 P1.1/XTALIN/SCL, 14 VSS, 15 P1.0/STALOUT/SDA, 16 P1.2, 17 P1.4/EXTCLK, 18 P1.6, 19 XRES, 20 P2.0/A/I, 21 P2.2/A/I, 22 P2.4/EXT AGND, 23 P2.6/EXT VREF, 24 P0.0/A/I, 25 P0.2/A/IO, 26 P0.4/A/IO, 27 P0.6/A/I, 28 VDD

## Dart-WZ-S Connector
designator P?, comment Dart-WZ-S
Formaldehyde module
footprint CON Header 4
pins: 1 TXD, 2 RXD, 3 GND, 4 5V

## DB101S
designator D?
Value: Cau 1A
footprint DB-S
pins: 1 +V, 2 -V, 3 AC1, 4 AC2

## DC12V-1
designator B?
Filter Inductor; Value: Loc 220; Designed by: VanDungEvn
footprint EF20
pins: 1, 2, 3, 4, 6, 8

## DC24V-4
designator B?
Filter Inductor; Value: Loc 220; Designed by: VanDungEvn
footprint PQ3535
pins: 1, 3, 4, 6, 8, 11

## Diode
designator D?
Default Diode; Published: 8-Jun-2000; LatestRevisionDate: 17-Jul-2002; LatestRevisionNote: Re-released for DXP Platform.; PackageVersion: Sep-1996; PackageReference: SMC; Publisher: Altium Limited; Code_JEDEC: DO-214-AB
footprint DO-214AC (SMA) (Molded Diode, 2-Leads, Body 4.3x2.7mm, IPC Medium Density)
footprint DO-41
footprint DO-214AB (SMC) (Molded Diode, 2-Leads, Body 7.9x5.8mm, IPC Low Density)
footprint DO-27
footprint SOD-80 (SOD-80 MiniMelf Diod case LL4148 3.7x1.6x0.5mm)
footprint SOD-123
footprint DO-214AA (SMB) (Molded Diode, 2-Leads, Body 7.9x5.8mm, IPC Low Density)
pins: 1 A, 2 K

## Diode Bridge
designator DB?
Convert AC to DC voltage, 4 pin; Value: Cau 1A
footprint BRIDGE DIODE 2A (CAU 1A TRON)
footprint BRIDGE DIODE D-72 (CAU 1A TRON)
footprint BRIDGE DIODE KBPM (CAU 1A TRON)
pins: 1 +V OUT, 2 AC1, 3 AC2, 4 -V OUT
text: V+; V-

## Diode Schottky
designator D?
Schottky Diode; Published: 8-Jun-2000; LatestRevisionDate: 17-Jul-2002; LatestRevisionNote: Re-released for DXP Platform.; PackageReference: SMB; Publisher: Altium Limited; Code_JEDEC: DO-214-AA
footprint DO-214AB (SMC) (Molded Diode, 2-Leads, Body 7.9x5.8mm, IPC Low Density)
footprint DO-214AC (SMA) (Molded Diode, 2-Leads, Body 4.3x2.7mm, IPC Medium Density)
footprint DO-27
footprint DO-41
footprint SOD-123
footprint SOD-80 (SOD-80 MiniMelf Diod case LL4148 3.7x1.6x0.5mm)
footprint DO-214AA (SMB) (Molded Diode, 2-Leads, Body 7.9x5.8mm, IPC Low Density)
pins: 1 A, 2 K

## Diode TVS
designator TVS?, comment P6KExxCA
Published: 8-Jun-2000; LatestRevisionDate: 17-Jul-2002; LatestRevisionNote: Re-released for DXP Platform.; PackageVersion: Sep-1996; PackageReference: SMC; Publisher: Altium Limited; Code_JEDEC: DO-214-AB
footprint DO-214AC (SMA) (Molded Diode, 2-Leads, Body 4.3x2.7mm, IPC Medium Density)
footprint DO-214AA (SMB) (Molded Diode, 2-Leads, Body 7.9x5.8mm, IPC Low Density)
footprint DO-214AB (SMC) (Molded Diode, 2-Leads, Body 7.9x5.8mm, IPC Low Density)
pins: 1, 2

## Diode Zener
designator D?
Zener Diode; Published: 8-Jun-2000; LatestRevisionDate: 17-Jul-2002; LatestRevisionNote: Re-released for DXP Platform.; PackageReference: DIODE-0.7; Publisher: Altium Limited
footprint DO-41
footprint DO-214AC (SMA) (Molded Diode, 2-Leads, Body 4.3x2.7mm, IPC Medium Density)
footprint SOD-80 (SOD-80 MiniMelf Diod case LL4148 3.7x1.6x0.5mm)
footprint SOD-123
pins: 1 A, 2 K

## DP83848CVV
designator U?
footprint QFP 50P 48 (TSQFP, 48-Leads, Body 9.2x9.2mm (max), Pitch 0.50mm, IPC Medium Density)
pins: 1 TX_CLK (out), 2 TX_EN (in), 3 TXD_0 (in), 4 TXD_1 (in), 5 TXD_2 (in), 6 TXD_3/SNI_MODE (in), 7 PWR_DOWN/INT, 8 NC, 9 NC, 10 NC, 11 NC, 12 NC, 13 RD-, 14 RD+, 15 AGND, 16 TD-, 17 TD+, 18 PFBIN1, 19 AGND, 20 NC, 21 NC, 22 AVDD33, 23 PFBOUT, 24 RBIAS, 25 25MHz_OUT (out), 26 LED_ACT/COL/AN_EN, 27 LED_SPEED/AN1, 28 LED_LINK/AN0, 29 RESET_N, 30 MDIO (io), 31 MDC (in), 32 IOVDD33, 33 X2 (out), 34 X1 (in), 35 IOGND, 36 DGND, 37 PFBIN2, 38 RX_CLK (out), 39 RX_DV/MII_MODE (out), 40 CRS/CRS_DV/LED_CFG (out), 41 RX_ER/MDIX_EN (out), 42 COL/PHYAD0 (out), 43 RXD_0/PHYAD1 (out), 44 RXD_1/PHYAD2 (out), 45 RXD_2/PHYAD3 (out), 46 RXD_3/PHYAD4 (out), 47 IOGND, 48 IOVDD33

## DS18S20
designator IC?
High Precision  1-Wire® Digital Thermometer
footprint TO-92
pins: 1 GND, 2 DQ, 3 VDD

## DS1307
designator U?
footprint DIP 8 (DIP IC (2.54mm), 8 pins)
pins: 1 X1, 2 X2, 3 VBAT, 4 GND, 5 SDA, 6 SCL, 7 OUT, 8 VCC

## DS3231
designator U?
footprint SOIC-16-WIDE (SOIC, 20-Leads, Body 12.8x7.5mm (max), Pitch 1.27mm, IPC Medium Density)
pins: 1 32KHz, 2 VCC, 3 ~{INT}/SQW, 4 ~{RST}, 5 NC, 6 NC, 7 NC, 8 NC, 9 NC, 10 NC, 11 NC, 12 NC, 13 GND, 14 VBAT, 15 SDA, 16 SCL

## DSA
designator DSA?
Glass Lightning Protection Tube; Published: 8-Jun-2000; LatestRevisionDate: 17-Jul-2002; LatestRevisionNote: Re-released for DXP Platform.; PackageVersion: Sep-1996; PackageReference: SMC; Publisher: Altium Limited; Code_JEDEC: DO-214-AB
footprint DSA
pins: 1, 2

## DW01-P
designator U?
footprint SOT-23-6 (SOT23, 6-Leads, Body 3.0x3.0mm (max), Pitch 0.95mm, IPC Medium Density)
pins: 1 OD (power), 2 CS, 3 OC, 4 TD, 5 VCC, 6 GND

## E520.3x
designator U?, comment E520.35
Elmos LIN SBC with Voltage Regulator and Watchdog
footprint QFN 65P 20 (QFN, 20-Leads, Body 5.0x5.0mm (max), Pitch 0.65mm, IPC Low Density)
pins: 1 VBAT (power), 3 ~{WAKE} (in), 5 VS (power), 6 GND (power), 8 LIN (io), 10 ~{RES} (out), 11 WDIN (in), 12 WDOSC (in), 13 WDDM (in), 14 EN (in), 15 TXD (in), 16 RXD (out), 17 DIV_ON (in), 18 PV (out), 19 GND (power), 20 VDD (power)

## EC11
designator U?
Rotate Encoder; Published: 8-Jun-2000; LatestRevisionDate: 17-Jul-2002; LatestRevisionNote: Re-released for DXP Platform.; PackageReference: AXIAL-0.3; Publisher: Altium Limited
footprint EC11M (16mm Single Horizontal PotentionMeter, 5mm Pitch)
pins: 1 A, 2 C, 3 B, 4 D, 5 E

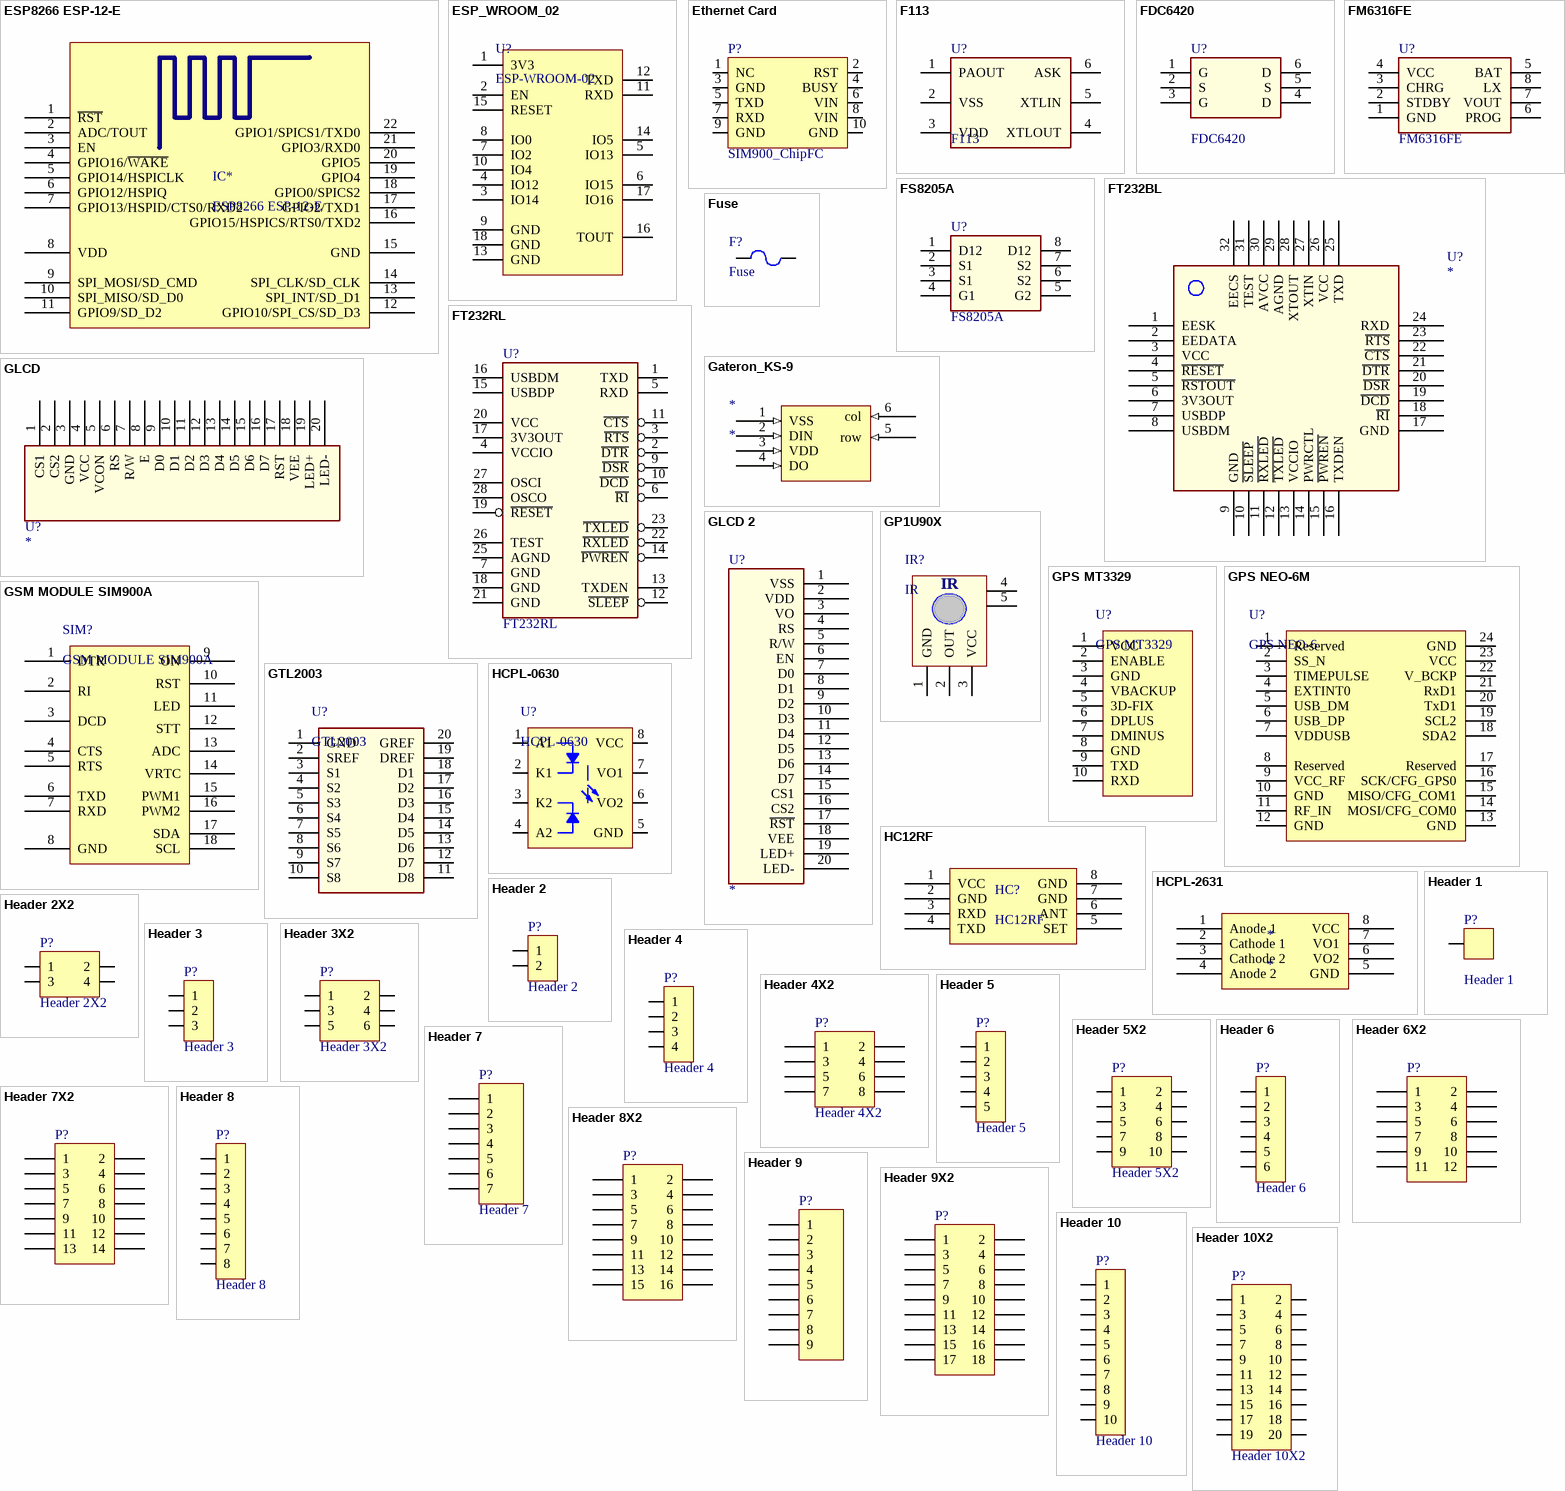
[diagram p4: symbols ESP8266 ESP-12-E to Header 10X2]

## ESP8266 ESP-12-E
designator IC*
footprint ESP8266 ESP-12-E
pins: 1 ~{RST} "Reset", 2 ADC/TOUT "ADC Input Or TOUT Output", 3 EN "Chip enable", 4 GPIO16/~{WAKE} "GPIO16 or Deep-Sleep Wakeup", 5 GPIO14/HSPICLK "GPIO14 or SPI CLK", 6 GPIO12/HSPIQ "GPIO12 or SPIQ", 7 GPIO13/HSPID/CTS0/RXD2 "GPIO13 or SPID", 8 VDD "Power supply", 9 SPI_MOSI/SD_CMD "GPIO14 or SPI CLK", 10 SPI_MISO/SD_D0 "GPIO12 or SPIQ", 11 GPIO9/SD_D2 "GPIO13 or SPID", 12 GPIO10/SPI_CS/SD_D3 "GPIO15 or SPICS", 13 SPI_INT/SD_D1 "GPIO2 or TX", 14 SPI_CLK/SD_CLK "GPIO0 or SPICS2", 15 GND "Power ground", 16 GPIO15/HSPICS/RTS0/TXD2 "GPIO15 or SPICS", 17 GPIO2/TXD1 "GPIO2 or TX", 18 GPIO0/SPICS2 "GPIO0 or SPICS2", 19 GPIO4 "GPIO5", 20 GPIO5 "GPIO4", 21 GPIO3/RXD0 "GPIO3 or UART RXD", 22 GPIO1/SPICS1/TXD0 "GPIO1 or UART TXD"

## ESP_WROOM_02
designator U?, comment ESP-WROOM-02
footprint ESP-WROOM-02 (Length 18mm; Width 20mm)
pins: 1 3V3, 2 EN, 3 IO14, 4 IO12, 5 IO13, 6 IO15, 7 IO2, 8 IO0, 9 GND, 10 IO4, 11 RXD, 12 TXD, 13 GND, 14 IO5, 15 RESET, 16 TOUT, 17 IO16, 18 GND

## Ethernet Card
designator P?, comment SIM900_ChipFC
Header, 5-Pin, Dual row; LatestRevisionDate: 17-Jul-2002; LatestRevisionNote: Re-released for DXP Platform.; Publisher: Altium Limited
footprint ETHERNET MODULE
pins: 1 NC, 2 RST, 3 GND, 4 BUSY, 5 TXD, 6 VIN, 7 RXD, 8 VIN, 9 GND, 10 GND

## F113
designator U?
300Mhz-to-500Mhz Low-Power, Crystal-Based ASK Transmitter
footprint SOT-23-6 (SOT23, 6-Leads, Body 3.0x3.0mm (max), Pitch 0.95mm, IPC Medium Density)
pins: 1 PAOUT, 2 VSS, 3 VDD, 4 XTLOUT, 5 XTLIN, 6 ASK

## FDC6420
designator U?
20V N & P-Channel PowerTrenchÒ MOSFETs
footprint SOT-6
pins: 1 G, 2 S, 3 G, 4 D, 5 S, 6 D

## FM6316FE
designator U?
Power Management IC
footprint SOIC-8 (SOIC, 8-Leads, Body 5.0x4.0mm (max), Pitch 1.27mm, IPC Medium Density)
pins: 1 GND, 2 STDBY, 3 CHRG, 4 VCC, 5 BAT, 6 PROG, 7 VOUT, 8 LX

## FS8205A
designator U?
Dual N-Channel Enhancement Mode Power MOSFET
footprint TSSOP 8
pins: 1 D12, 2 S1, 3 S1, 4 G1, 5 G2, 6 S2, 7 S2, 8 D12

## FT232BL
designator U?
pins: 1 EESK, 2 EEDATA, 3 VCC (power), 4 ~{RESET}, 5 ~{RSTOUT}, 6 3V3OUT, 7 USBDP, 8 USBDM, 9 GND (power), 10 ~{SLEEP}, 11 ~{RXLED}, 12 ~{TXLED}, 13 VCCIO (power), 14 PWRCTL, 15 ~{PWREN}, 16 TXDEN, 17 GND (power), 18 ~{RI}, 19 ~{DCD}, 20 ~{DSR}, 21 ~{DTR}, 22 ~{CTS}, 23 ~{RTS}, 24 RXD, 25 TXD, 26 VCC (power), 27 XTIN, 28 XTOUT, 29 AGND (power), 30 AVCC (power), 31 TEST, 32 EECS

## FT232RL
designator U?
USB to serial UART interface
footprint TSSOP 28 65P (SOP, 28-Leads, Body 10.5x5.6mm (max), Pitch 0.65mm, IPC Medium Density)
pins: 1 TXD, 2 ~{DTR}, 3 ~{RTS}, 4 VCCIO, 5 RXD, 6 ~{RI}, 7 GND (power), 9 ~{DSR}, 10 ~{DCD}, 11 ~{CTS}, 12 ~{SLEEP}, 13 TXDEN, 14 ~{PWREN}, 15 USBDP, 16 USBDM, 17 3V3OUT, 18 GND (power), 19 ~{RESET}, 20 VCC (power), 21 GND (power), 22 ~{RXLED}, 23 ~{TXLED}, 25 AGND, 26 TEST, 27 OSCI, 28 OSCO

## Fuse
designator F?
footprint Fuse 1812P050 (Fuse 1812P050, 2-Leads, Body 4.5x3.2mm, IPC Medium Density)
footprint FUSE 4 DIP
footprint FUSE
footprint FUSE BOX 2 DIP
pins: 1, 2

## Gateron_KS-9
designator *
footprint Gateron_KS-9
pins: 1 VSS (in) "Ground", 2 DIN (in) "Display data cascaded input (800k bps)", 3 VDD (in) "LED and Logic Power Supply", 4 DO (in) "Display data cascaded output (800k bps)", 5 row (in), 6 col (in)

## GLCD
designator U?
pins: 1 CS1, 2 CS2, 3 GND, 4 VCC, 5 VCON, 6 RS, 7 R/W, 8 E, 9 D0, 10 D1, 11 D2, 12 D3, 13 D4, 14 D5, 15 D6, 16 D7, 17 RST, 18 VEE, 19 LED+, 20 LED-

## GLCD 2
designator U?
pins: 1 VSS, 2 VDD, 3 VO, 4 RS, 5 R/W, 6 EN, 7 D0, 8 D1, 9 D2, 10 D3, 11 D4, 12 D5, 13 D6, 14 D7, 15 CS1, 16 CS2, 17 ~{RST}, 18 VEE, 19 LED+, 20 LED-

## GP1U90X
designator IR?, comment IR
Receiver Infraed IC
footprint GP1U90X (IR Detecting Unit for Remote  Control)
pins: 1 GND, 2 OUT, 3 VCC, 4 NC, 5 NC

## GPS MT3329
designator U?
66-channel GPS Engine Board Antenna Module with MTK Chipset MEDIATEK-3329
footprint GPS MT3329 (66-channel GPS Engine Board Antenna Module with MTK Chipset MEDIATEK-3329)
pins: 1 VCC, 2 ENABLE, 3 GND, 4 VBACKUP, 5 3D-FIX, 6 DPLUS, 7 DMINUS, 8 GND, 9 TXD, 10 RXD

## GPS NEO-6M
designator U?, comment GPS NEO-6
NEO-6 series Versatile u-blox 6 GPS modules
footprint GPS NEO-6
pins: 1 Reserved, 2 SS_N, 3 TIMEPULSE, 4 EXTINT0, 5 USB_DM, 6 USB_DP, 7 VDDUSB, 8 Reserved, 9 VCC_RF, 10 GND, 11 RF_IN, 12 GND, 13 GND, 14 MOSI/CFG_COM0, 15 MISO/CFG_COM1, 16 SCK/CFG_GPS0, 17 Reserved, 18 SDA2, 19 SCL2, 20 TxD1, 21 RxD1, 22 V_BCKP, 23 VCC, 24 GND

## GSM MODULE SIM900A
designator SIM?
footprint GSM MODULE SIM900
pins: 1 DTR, 2 RI, 3 DCD, 4 CTS, 5 RTS, 6 TXD, 7 RXD, 8 GND, 9 ON, 10 RST, 11 LED, 12 STT, 13 ADC, 14 VRTC, 15 PWM1, 16 PWM2, 17 SDA, 18 SCL

## GTL2003
designator U?
8-bit bidirectional low voltage translator
footprint TSSOP 20 65P (TSOP, 20-Leads, Body 6.6x4.5mm (max), Pitch 0.65mm, IPC Medium Density)
pins: 1 GND (power), 2 SREF, 3 S1, 4 S2, 5 S3, 6 S4, 7 S5, 8 S6, 9 S7, 10 S8, 11 D8, 12 D7, 13 D6, 14 D5, 15 D4, 16 D3, 17 D2, 18 D1, 19 DREF, 20 GREF

## HC12RF
designator HC?
footprint HC12RF
pins: 1 VCC, 2 GND, 3 RXD, 4 TXD, 5 SET, 6 ANT, 7 GND, 8 GND

## HCPL-0630
designator U?
footprint SOIC-8 (SOIC, 8-Leads, Body 5.0x4.0mm (max), Pitch 1.27mm, IPC Medium Density)
footprint DIP 8 (DIP IC (2.54mm), 8 pins)
pins: 1 A1, 2 K1, 3 K2, 4 A2, 5 GND, 6 VO2, 7 VO1, 8 VCC

## HCPL-2631
designator *
footprint SO-8 HCPL
pins: 1 Anode 1, 2 Cathode 1, 3 Cathode 2, 4 Anode 2, 5 GND, 6 VO2, 7 VO1, 8 VCC

## Header 1
designator P?
Header, 1-Pin; LatestRevisionDate: 17-Jul-2002; LatestRevisionNote: Re-released for DXP Platform.; Publisher: Altium Limited
footprint Header 1
pins: 1

## Header 2
designator P?
Header, 2-Pin; LatestRevisionDate: 17-Jul-2002; LatestRevisionNote: Re-released for DXP Platform.; Publisher: Altium Limited
footprint HDR Domino 2 (Header 2, 2 pin, hight 300mil, Pin to Pin 200, Colour Green)
footprint HDR Domino 2 - 5MM (Header 2, 2 pin, hight 400mil, Pin to Pin 200mil, Colour Green)
footprint Header 2
footprint HDR DOMINO 2 - 4mm
footprint CON Header 2
footprint HDR DOMINO 2 - 4mm male and female angle
pins: 1, 2

## Header 2X2
designator P?
Header, 2-Pin, Dual row; LatestRevisionDate: 17-Jul-2002; LatestRevisionNote: Re-released for DXP Platform.; Publisher: Altium Limited
footprint Header 2x2
pins: 1, 2, 3, 4

## Header 3
designator P?
Header, 3-Pin
footprint HDR DOMINO 3 (Header 3, 3 pin, hight 300mil, Pin to Pin 200, Colour Green)
footprint HDR Domino 3 - 5MM
footprint Header 3
footprint HDR DOMINO 3 - 4mm
footprint HDR DOMINO 3 - 4mm male and female angle
pins: 1, 2, 3

## Header 3X2
designator P?
Header, 3-Pin, Dual row; LatestRevisionDate: 17-Jul-2002; LatestRevisionNote: Re-released for DXP Platform.; Publisher: Altium Limited
footprint Header 3x2
footprint IDC MBH 6 (6 pins Male Box Header, IDC Socket)
pins: 1, 2, 3, 4, 5, 6

## Header 4
designator P?
Header, 4-Pin
footprint Header 4
footprint HDR DOMINO 4 (Header 4, 4 pin, hight 300mil, Pin to Pin 200, Colour Green)
footprint CON Header 4
pins: 1, 2, 3, 4

## Header 4X2
designator P?
Header, 4-Pin, Dual row
footprint Header 4x2
pins: 1, 2, 3, 4, 5, 6, 7, 8

## Header 5
designator P?
Header, 5-Pin; LatestRevisionDate: 17-Jul-2002; LatestRevisionNote: Re-released for DXP Platform.; Publisher: Altium Limited
footprint Header 5
pins: 1, 2, 3, 4, 5

## Header 5X2
designator P?
Header, 5-Pin, Dual row; LatestRevisionDate: 17-Jul-2002; LatestRevisionNote: Re-released for DXP Platform.; Publisher: Altium Limited
footprint Header 5x2
footprint IDC MBH 10 (10 pins Male Box Header, IDC Socket)
footprint IDC MBH 10 R/A (10 pins Male Box Header right angle, IDC Socket)
footprint Header 5x2 - Angel
pins: 1, 2, 3, 4, 5, 6, 7, 8, 9, 10

## Header 6
designator P?
Header, 6-Pin
footprint HDR DOMINO 6 (Header 6, 6 pin, hight 300mil, Pin to Pin 200, Colour Green)
footprint Model Name (Footprint not found)
footprint HDR Domino 6 - Short
footprint Header 6
pins: 1, 2, 3, 4, 5, 6

## Header 6X2
designator P?
Header, 6-Pin, Dual row; LatestRevisionDate: 17-Jul-2002; LatestRevisionNote: Re-released for DXP Platform.; Publisher: Altium Limited
footprint HDR2X6 (Connector; Header; 6x2 Position)
signal-integrity model Connector
pins: 1, 2, 3, 4, 5, 6, 7, 8, 9, 10, 11, 12

## Header 7
designator P?
Header, 7-Pin; LatestRevisionDate: 17-Jul-2002; LatestRevisionNote: Re-released for DXP Platform.; Publisher: Altium Limited
footprint Header 7
pins: 1, 2, 3, 4, 5, 6, 7

## Header 7X2
designator P?
Header, 7-Pin, Dual row; LatestRevisionDate: 17-Jul-2002; LatestRevisionNote: Re-released for DXP Platform.; Publisher: Altium Limited
signal-integrity model Connector
footprint IDC MBH 14 (14 pins Male Box Header, IDC Socket)
footprint HDR2X7 (Connector; Header; 7x2 Position)
pins: 1, 2, 3, 4, 5, 6, 7, 8, 9, 10, 11, 12, 13, 14

## Header 8
designator P?
Header, 8-Pin; LatestRevisionDate: 17-Jul-2002; LatestRevisionNote: Re-released for DXP Platform.; Publisher: Altium Limited
footprint Header 8
footprint HDR DOMINO 8 (Header 6, 6 pin, hight 300mil, Pin to Pin 200, Colour Green)
pins: 1, 2, 3, 4, 5, 6, 7, 8

## Header 8X2
designator P?
Header, 8-Pin, Dual row; LatestRevisionDate: 17-Jul-2002; LatestRevisionNote: Re-released for DXP Platform.; Publisher: Altium Limited
footprint HDR2X8 (Connector; Header; 8x2 Position)
signal-integrity model Connector
footprint IDC MBH 16 R/A
pins: 1, 2, 3, 4, 5, 6, 7, 8, 9, 10, 11, 12, 13, 14, 15, 16

## Header 9
designator P?
Header, 9-Pin; LatestRevisionDate: 17-Jul-2002; LatestRevisionNote: Re-released for DXP Platform.; Publisher: Altium Limited
footprint Header 9
pins: 1, 2, 3, 4, 5, 6, 7, 8, 9

## Header 9X2
designator P?
Header, 9-Pin, Dual row; LatestRevisionDate: 17-Jul-2002; LatestRevisionNote: Re-released for DXP Platform.; Publisher: Altium Limited
footprint HDR2X9 (Connector; Header; 9x2 Position)
signal-integrity model Connector
pins: 1, 2, 3, 4, 5, 6, 7, 8, 9, 10, 11, 12, 13, 14, 15, 16, 17, 18

## Header 10
designator P?
Header, 10-Pin
footprint Header 10
footprint HDR DOMINO 10 (Header 6, 6 pin, hight 300mil, Pin to Pin 200, Colour Green)
pins: 1, 2, 3, 4, 5, 6, 7, 8, 9, 10

## Header 10X2
designator P?
Header, 10-Pin, Dual row; LatestRevisionDate: 17-Jul-2002; LatestRevisionNote: Re-released for DXP Platform.; Publisher: Altium Limited
footprint Header 10x2
footprint IDC MBH 20 (20 pins Male Box Header, IDC Socket)
footprint IDC MBH 20 R/A
pins: 1, 2, 3, 4, 5, 6, 7, 8, 9, 10, 11, 12, 13, 14, 15, 16, 17, 18, 19, 20

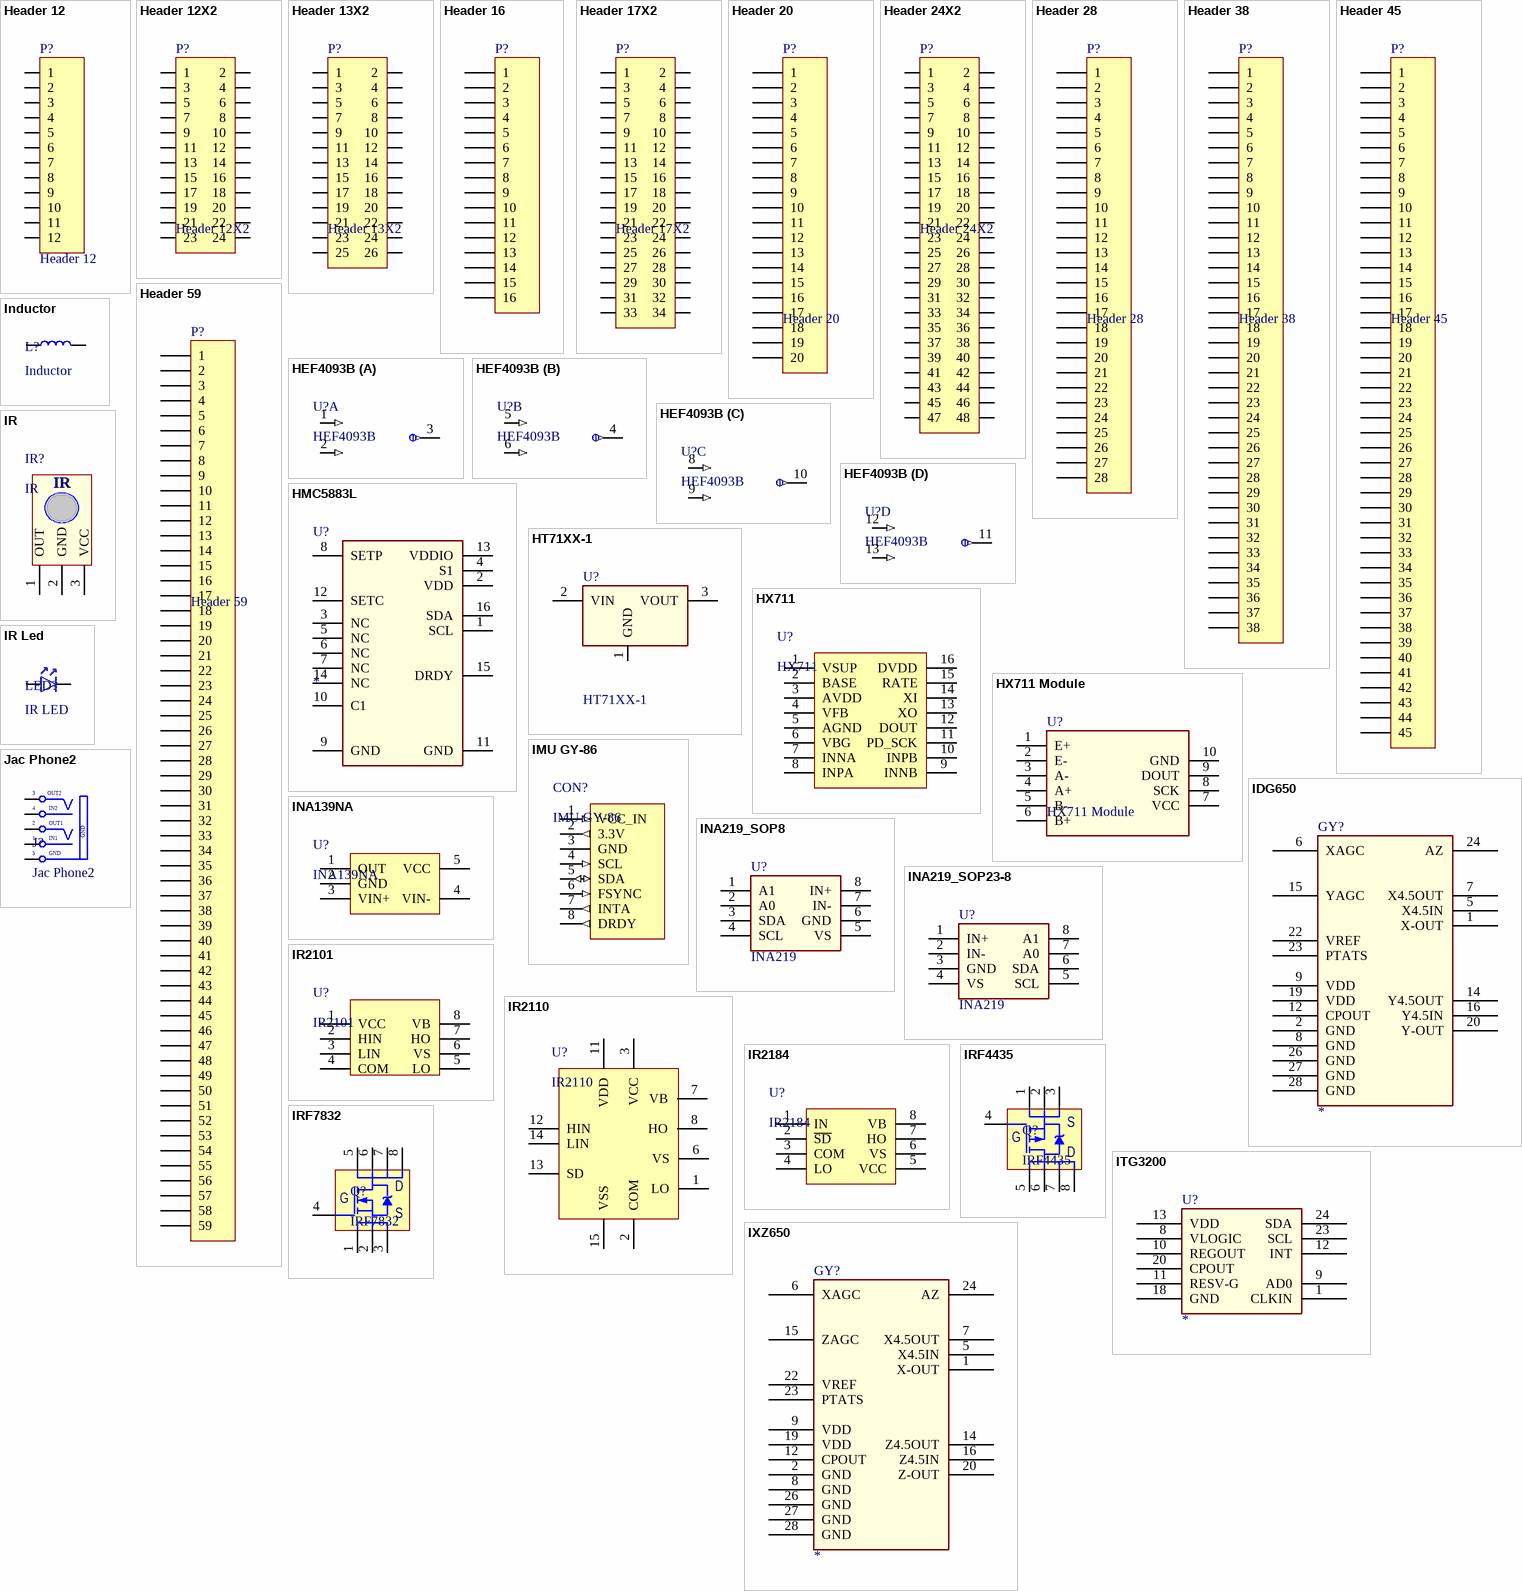
[diagram p5: symbols Header 12 to Jac Phone2]

## Header 12
designator P?
Header, 12-Pin; LatestRevisionDate: 17-Jul-2002; LatestRevisionNote: Re-released for DXP Platform.; Publisher: Altium Limited
footprint SIP/TM/L1.200/12
pins: 1, 2, 3, 4, 5, 6, 7, 8, 9, 10, 11, 12

## Header 12X2
designator P?
Header, 10-Pin, Dual row; LatestRevisionDate: 17-Jul-2002; LatestRevisionNote: Re-released for DXP Platform.; Publisher: Altium Limited
pins: 1, 2, 3, 4, 5, 6, 7, 8, 9, 10, 11, 12, 13, 14, 15, 16, 17, 18, 19, 20, 21, 22, 23, 24

## Header 13X2
designator P?
LatestRevisionDate: 17-Jul-2002; LatestRevisionNote: Re-released for DXP Platform.; Publisher: Altium Limited
footprint IDC MBH 26 (34 pins Male Box Header, IDC Socket)
pins: 1, 2, 3, 4, 5, 6, 7, 8, 9, 10, 11, 12, 13, 14, 15, 16, 17, 18, 19, 20, 21, 22, 23, 24, 25, 26

## Header 16
designator P?
Header, 16-Pin; LatestRevisionDate: 17-Jul-2002; LatestRevisionNote: Re-released for DXP Platform.; Publisher: Altium Limited
footprint HDR1X16 (Connector; Header; 16 Position)
signal-integrity model Connector
pins: 1, 2, 3, 4, 5, 6, 7, 8, 9, 10, 11, 12, 13, 14, 15, 16

## Header 17X2
designator P?
Header, 10-Pin, Dual row; LatestRevisionDate: 17-Jul-2002; LatestRevisionNote: Re-released for DXP Platform.; Publisher: Altium Limited
footprint IDC MBH 34 (34 pins Male Box Header, IDC Socket)
pins: 1, 2, 3, 4, 5, 6, 7, 8, 9, 10, 11, 12, 13, 14, 15, 16, 17, 18, 19, 20, 21, 22, 23, 24, 25, 26, 27, 28, 29, 30, 31, 32, 33, 34

## Header 20
designator P?
Header, 20-Pin; LatestRevisionDate: 17-Jul-2002; LatestRevisionNote: Re-released for DXP Platform.; Publisher: Altium Limited
footprint Header 20 Female (Connector; Header; 16 Position)
pins: 1, 2, 3, 4, 5, 6, 7, 8, 9, 10, 11, 12, 13, 14, 15, 16, 17, 18, 19, 20

## Header 24X2
designator P?
Header, 48-Pin, Dual row; LatestRevisionDate: 17-Jul-2002; LatestRevisionNote: Re-released for DXP Platform.; Publisher: Altium Limited
footprint Header 24x2
pins: 1, 2, 3, 4, 5, 6, 7, 8, 9, 10, 11, 12, 13, 14, 15, 16, 17, 18, 19, 20, 21, 22, 23, 24, 25, 26, 27, 28, 29, 30, 31, 32, 33, 34, 35, 36, 37, 38, 39, 40, 41, 42, 43, 44, 45, 46, 47, 48

## Header 28
designator P?
Header, 20-Pin; LatestRevisionDate: 17-Jul-2002; LatestRevisionNote: Re-released for DXP Platform.; Publisher: Altium Limited
footprint TERMINAL BLOCK 28 PLC
pins: 1, 2, 3, 4, 5, 6, 7, 8, 9, 10, 11, 12, 13, 14, 15, 16, 17, 18, 19, 20, 21, 22, 23, 24, 25, 26, 27, 28

## Header 38
designator P?
Header, 38-Pin; LatestRevisionDate: 17-Jul-2002; LatestRevisionNote: Re-released for DXP Platform.; Publisher: Altium Limited
footprint Header 38
pins: 1, 2, 3, 4, 5, 6, 7, 8, 9, 10, 11, 12, 13, 14, 15, 16, 17, 18, 19, 20, 21, 22, 23, 24, 25, 26, 27, 28, 29, 30, 31, 32, 33, 34, 35, 36, 37, 38

## Header 45
designator P?
Header, 45-Pin; LatestRevisionDate: 17-Jul-2002; LatestRevisionNote: Re-released for DXP Platform.; Publisher: Altium Limited
footprint HDR2.0-M-45
pins: 1, 2, 3, 4, 5, 6, 7, 8, 9, 10, 11, 12, 13, 14, 15, 16, 17, 18, 19, 20, 21, 22, 23, 24, 25, 26, 27, 28, 29, 30, 31, 32, 33, 34, 35, 36, 37, 38, 39, 40, 41, 42, 43, 44, 45

## Header 59
designator P?
Header, 59-Pin; LatestRevisionDate: 17-Jul-2002; LatestRevisionNote: Re-released for DXP Platform.; Publisher: Altium Limited
footprint HDR2.0-M-59
pins: 1, 2, 3, 4, 5, 6, 7, 8, 9, 10, 11, 12, 13, 14, 15, 16, 17, 18, 19, 20, 21, 22, 23, 24, 25, 26, 27, 28, 29, 30, 31, 32, 33, 34, 35, 36, 37, 38, 39, 40, 41, 42, 43, 44, 45, 46, 47, 48, 49, 50, 51, 52, 53, 54, 55, 56, 57, 58, 59

## HEF4093B
designator U?
Quad 2-input NAND Schmitt trigger
footprint SOIC-14 (SOIC, 14-Leads, Body 8.6x3.9mm (max), Pitch 1.27mm, IPC Medium Density)
footprint DIP 14
part A pins: 1 1A (in), 2 1B (in), 3 1Y (out), 7 GND hidden to GND, 14 + (power) hidden to VCC
part B pins: 4 2Y (out), 5 2A (in), 6 2B (in)
part C pins: 8 3A (in), 9 3B (in), 10 3Y (out)
part D pins: 11 4Y (out), 12 4A (in), 13 4B (in)

## HMC5883L
designator U?
footprint LPCC 16-LEAD
pins: 1 SCL, 2 VDD (power), 3 NC, 4 S1, 5 NC, 6 NC, 7 NC, 8 SETP, 9 GND (power), 10 C1, 11 GND (power), 12 SETC, 13 VDDIO, 14 NC, 15 DRDY, 16 SDA

## HT71XX-1
designator U?
30mA Low Power LDO
footprint SOT-89 (SOT89, 3-Leads, Body 4.5x2.4mm (max), Pitch 1.50mm, Lead Span 4.1mm, IPC Medium Density)
pins: 1 GND, 2 VIN (power), 3 VOUT

## HX711
designator U?
Hex inverter
footprint SOIC-16 (SOIC, 16-Leads, Body 10.0x4.0mm (max), Pitch 1.27mm, IPC Medium Density)
pins: 1 VSUP, 2 BASE, 3 AVDD, 4 VFB, 5 AGND, 6 VBG, 7 INNA, 8 INPA, 9 INNB, 10 INPB, 11 PD_SCK, 12 DOUT, 13 XO, 14 XI, 15 RATE, 16 DVDD

## HX711 Module
designator U?
footprint HX711 Module
pins: 1 E+, 2 E-, 3 A-, 4 A+, 5 B-, 6 B+, 7 VCC, 8 SCK, 9 DOUT, 10 GND

## IDG650
designator GY?
pins: 1 X-OUT, 2 GND (power), 5 X4.5IN, 6 XAGC, 7 X4.5OUT, 8 GND (power), 9 VDD (power), 12 CPOUT, 14 Y4.5OUT, 15 YAGC, 16 Y4.5IN, 19 VDD (power), 20 Y-OUT, 22 VREF, 23 PTATS, 24 AZ, 26 GND (power), 27 GND (power), 28 GND (power)

## IMU GY-86
designator CON?
IMU GY-86, includes MPU6050, HMC5883L, MS5611
footprint IMU GY-86 (IMU GY-86, includes MPU6050, HMC5883L, MS5611)
pins: 1 VCC_IN (in), 2 3.3V (out), 3 GND (power), 4 SCL (in), 5 SDA (io), 6 FSYNC (in), 7 INTA (out), 8 DRDY (out)

## INA139NA
designator U?
footprint SOT-23-5 (SOT23, 5-Leads, Body 3.0x3.0mm (max), Pitch 0.95mm, IPC Medium Density)
pins: 1 OUT, 2 GND, 3 VIN+, 4 VIN-, 5 VCC

## INA219_SOP8
designator U?, comment INA219
Zerø-Drift, Bidirectional Current/Power Monitor With I2C Interface
footprint SOIC-8 (SOIC, 8-Leads, Body 5.0x4.0mm (max), Pitch 1.27mm, IPC Medium Density)
pins: 1 A1, 2 A0, 3 SDA, 4 SCL, 5 VS, 6 GND, 7 IN-, 8 IN+

## INA219_SOP23-8
designator U?, comment INA219
Zerø-Drift, Bidirectional Current/Power Monitor With I2C Interface
footprint SOT-23-8
pins: 1 IN+, 2 IN-, 3 GND, 4 VS, 5 SCL, 6 SDA, 7 A0, 8 A1

## Inductor
designator L?
footprint Inductor SMD 12x12x8 (Precision Wire Wound Inductor, 2-Leads, Body 12.3x12.3mm, IPC Low Density)
footprint R 1/4W
footprint Inductor SMD 8.3x8.3x4.5 (Precision Wire Wound Inductor, 2-Leads, Body 10.0x8.0mm, IPC Low Density)
footprint Inductor SMD 0805 (2012) (Precision Wire Wound Inductor, 2-Leads, Body 2.0x1.2mm, IPC Medium Density)
footprint Inductor SMD 1210 (3225) (Precision Wire Wound Inductor, 2-Leads, Body 3.2x2.5mm, IPC Medium Density)
footprint Inductor SMD 7.5x7.0x5.0 (Precision Wire Wound Inductor, 2-Leads, Body 7.5x7.0mm, IPC Medium Density)
footprint Inductor SMD 4.8x4.8 (Precision Wire Wound Inductor, 2-Leads, Body 4.8x4.8mm, IPC Medium Density)
footprint Inductor SMD 0603 (1608) (Chip Resistor, 2-Leads, Body 1.6x0.8mm, IPC Medium Density)
pins: 1, 2

## IR
designator IR?
Receiver Infraed IC
footprint IR (Receiver Infared IC)
pins: 1 OUT, 2 GND, 3 VCC

## IR2101
designator U?
Half-bridge driver
footprint DIP 8 (DIP IC (2.54mm), 8 pins)
footprint SOIC-8 (SOIC, 8-Leads, Body 5.0x4.0mm (max), Pitch 1.27mm, IPC Medium Density)
pins: 1 VCC, 2 HIN, 3 LIN, 4 COM, 5 LO, 6 VS, 7 HO, 8 VB

## IR2110
designator U?
HIGH AND LOW SIDE DRIVER
footprint SOIC-16-WIDE (SOIC, 20-Leads, Body 12.8x7.5mm (max), Pitch 1.27mm, IPC Medium Density)
pins: 1 LO, 2 COM, 3 VCC, 6 VS, 7 VB, 8 HO, 11 VDD, 12 HIN, 13 SD, 14 LIN, 15 VSS

## IR2184
designator U?
Half-bridge driver
footprint DIP 8 (DIP IC (2.54mm), 8 pins)
footprint SOIC-8 (SOIC, 8-Leads, Body 5.0x4.0mm (max), Pitch 1.27mm, IPC Medium Density)
pins: 1 IN, 2 ~{SD}, 3 COM, 4 LO, 5 VCC, 6 VS, 7 HO, 8 VB